# Altium schematic symbol library Hydrolib_sch.SchLib: 80 symbols
Pins are listed as number, name and electrical type; pins without a type are passive.

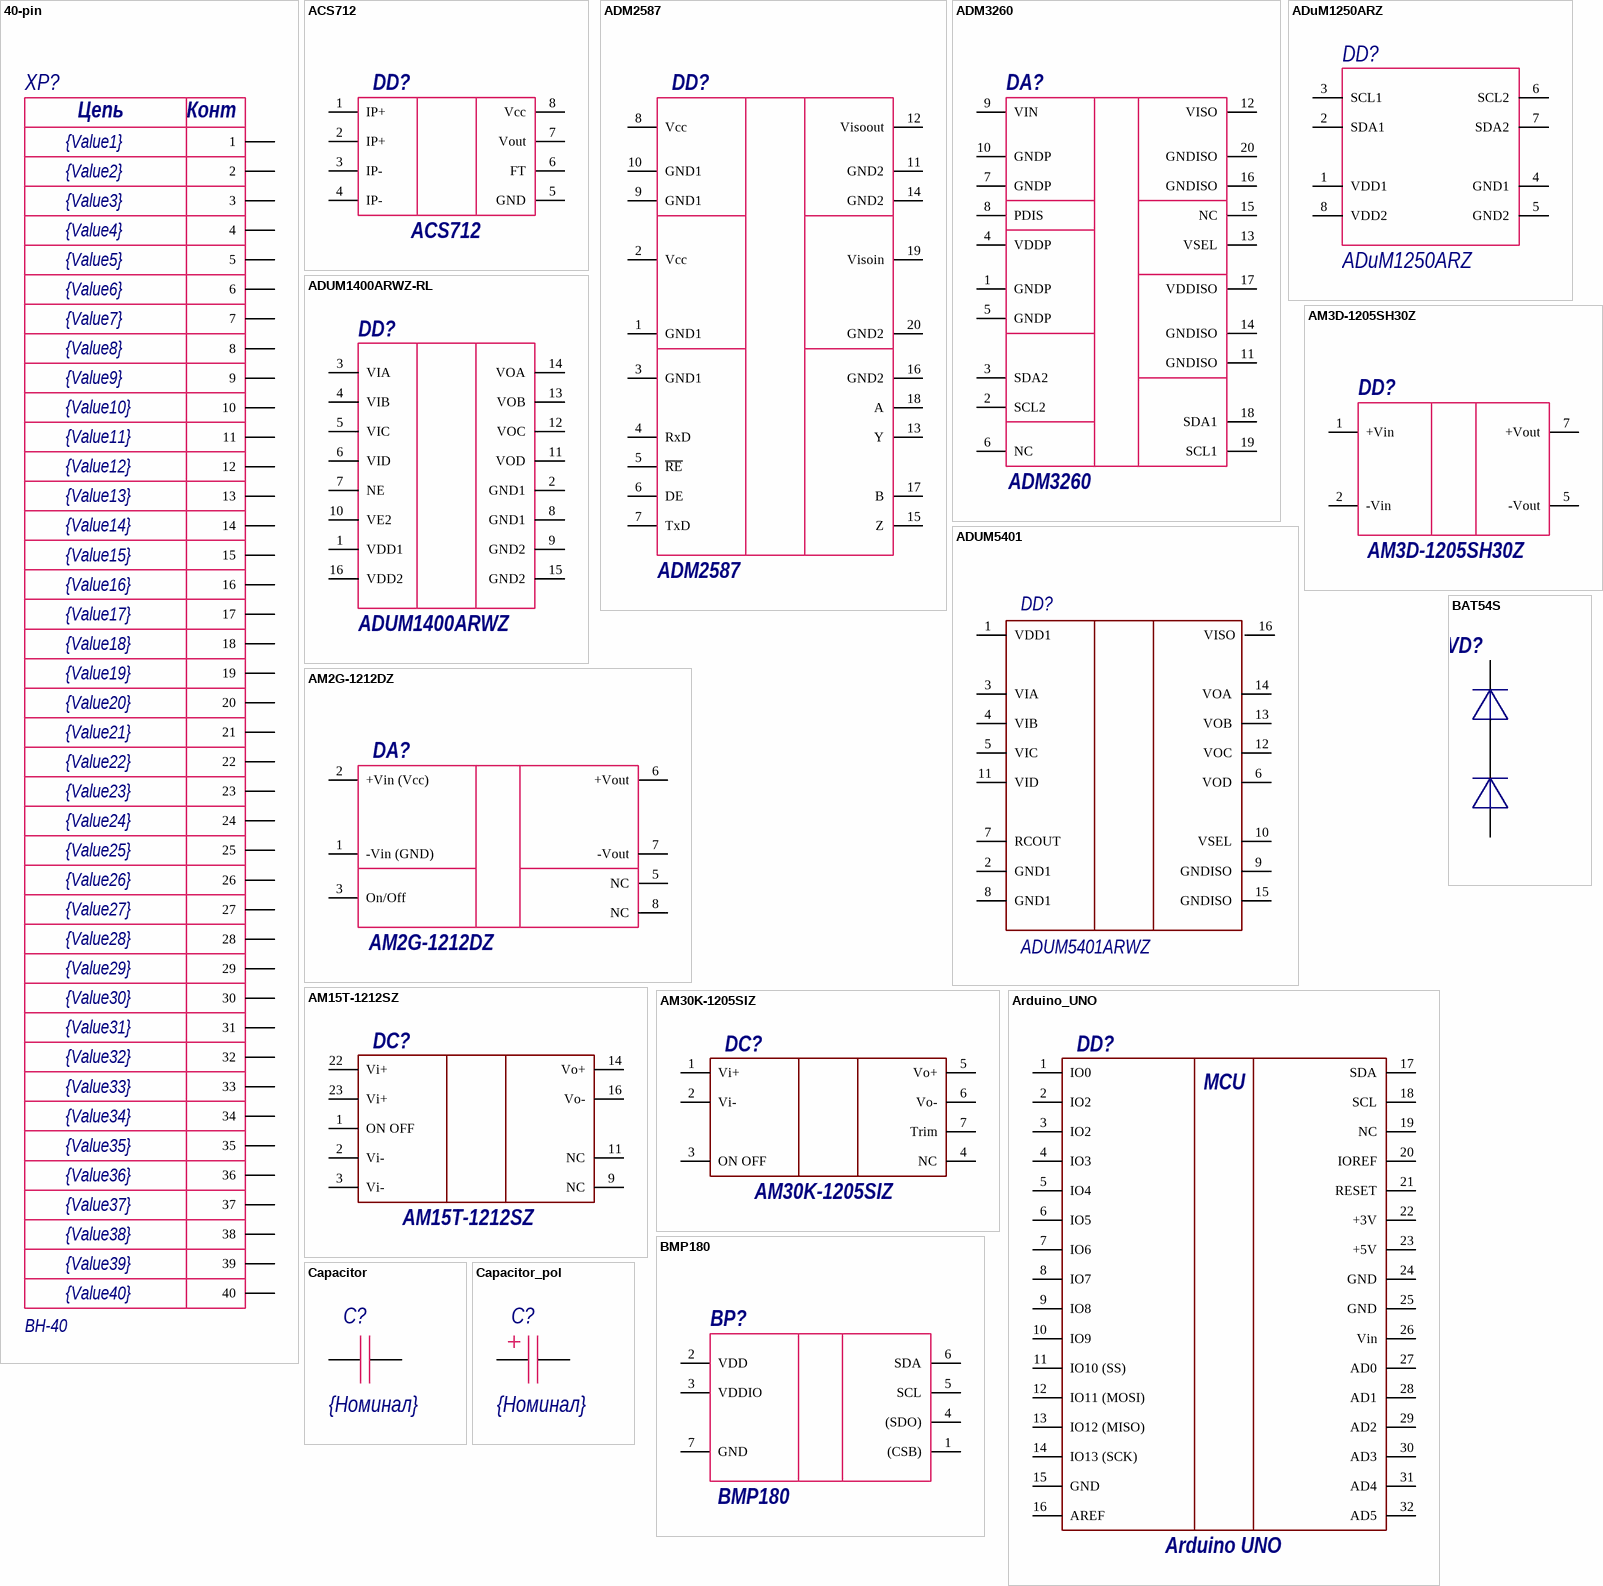
[diagram p0: symbols 40-pin to Capacitor_pol]

## 40-pin
designator XP?  value BH-40  Value10: {Value10}  Value11: {Value11}  Value12: {Value12}  Value13: {Value13}  Value14: {Value14}  Value15: {Value15}  Value16: {Value16}  Value17: {Value17}  Value18: {Value18}  Value1: {Value1}  Value2: {Value2}  Value3: {Value3}  Value4: {Value4}  Value5: {Value5}  Value6: {Value6}  Value7: {Value7}  Value8: {Value8}  Value9: {Value9}  Value19: {Value19}  Value20: {Value20}  Value21: {Value21}  Value22: {Value22}  Value23: {Value23}  Value24: {Value24}  Value25: {Value25}  Value26: {Value26}  Value27: {Value27}  Value28: {Value28}  Value29: {Value29}  Value30: {Value30}  Value31: {Value31}  Value32: {Value32}  Value33: {Value33}  Value34: {Value34}  Value35: {Value35}  Value36: {Value36}  Value37: {Value37}  Value38: {Value38}  Value39: {Value39}  Value40: {Value40}  (hidden comment: *)
Manufacturer: Connfly; Notice: Вилка-мама 40 пинов, шаг 2.54мм; Rate: 500В AC 1min; Case: корпус; Datasheet: https://lib.chipdip.ru/463/DOC002463525.pdf; Shop: https://www.chipdip.ru/product/idc-40ms
footprint PC - 104 20X2 (Connector; Header; 20x2 Position)
pins: 1, 2, 3, 4, 5, 6, 7, 8, 9, 10, 11, 12, 13, 14, 15, 16, 17, 18, 19, 20, 21, 22, 23, 24, 25, 26, 27, 28, 29, 30, 31, 32, 33, 34, 35, 36, 37, 38, 39, 40
text: Цепь; Конт

## ACS712
designator DD?
Manufacturer: Allegro Microsystems; Rate: 4,5...5,5В; Notice: Датчик постоянного тока на эффекте Холла; Datasheet: http://www.allegromicro.com/~/media/Files/Datasheets/ACS712-Datasheet.ashx; Shop: https://www.chipdip.ru/product/acs712elctr-05b-t; Value: ACS712
footprint SOIC8N (SOIC, 8-Leads, Body 4,90x3,90mm, Pitch 1,27mm, IPC Medium Density)
pins: 1 IP+, 2 IP+, 3 IP-, 4 IP-, 5 GND, 6 FT, 7 Vout, 8 Vcc

## ADM2587
designator DD?
Manufacturer: Analog Devies; Notice: Преобразователь RS-485 - UART с развязанным питанием и шиной данных; Rate: -0,5...7,5В; Datasheet: http://www.analog.com/media/en/technical-documentation/data-sheets/ADM2582E_2587E.pdf; Shop: https://ru.aliexpress.com/item/Free-shipping-10PCS-1lot-IC-ADM2587EBRWZ-ADM2587E-2587EBRWZ-SOP-20/32722806856.html?spm=a2g0v.search0302.3.9.s5rrmf&ws_ab_test=searchweb0_0,searchweb201602_0_10073_10152_10151_10536_10538_10537_10539_10055_10154_10211_10056_10155_10059_10312_10314_10534_10313_10533_10060_10084_100031_10083_10129_10107_10128_10307_10341_10065_10142_10340_10068_10343_10541_10342_10125_10169_10301_10345_10103_10543_10102_10344,searchweb201603_0,ppcSwitch_0&algo_pvid=65e5a329-1a38-4845-a227-d5df7d082cf8&algo_expid=65e5a329-1a38-4845-a227-d5df7d082cf8-1
footprint SOICRW-20 (20-Lead Standart Small Outline Package [SOIC_W] Wide Body (RW-20))
pins: 1 GND1 (power), 2 Vcc (power), 3 GND1, 4 RxD, 5 ~{RE}, 6 DE, 7 TxD, 8 Vcc (power), 9 GND1 (power), 10 GND1, 11 GND2 (power), 12 Visoout (power), 13 Y, 14 GND2, 15 Z, 16 GND2, 17 B, 18 A, 19 Visoin (power), 20 GND2 (power)

## ADM3260
designator DA?
Manufacturer: Analog Devices; Rate: 3,3...5,5В; Notice: Развязка I2C и питания; Datasheet: http://www.analog.com/media/en/technical-documentation/data-sheets/ADM3260.pdf; Shop: https://www.terraelectronica.ru/product/2120440; Value: ADM3260
footprint SSOP20 (For ADM3260)
pins: 1 GNDP, 2 SCL2, 3 SDA2, 4 VDDP, 5 GNDP, 6 NC, 7 GNDP, 8 PDIS, 9 VIN, 10 GNDP, 11 GNDISO, 12 VISO, 13 VSEL, 14 GNDISO, 15 NC, 16 GNDISO, 17 VDDISO, 18 SDA1, 19 SCL1, 20 GNDISO

## ADuM1250ARZ
designator DD?
Hot Swappable, Dual I2C Isolator, 3 to 5.5 V, -40 to 105 degC, 8-Pin SOIC (R-8), RoHS, Tape and Reel; PartNumber: ADuM1250ARZ-RL7; Data Rate: 1 Mbps; Supply Voltage Min: 3 V; Supply Voltage Max: 5.5 V; Mounting Technology: Surface Mount; Packing: Tape and Reel; ComponentLink2URL: http://www.analog.com/media/en/technical-documentation/data-sheets/ADUM1250_1251.pdf; Temperature Min: -40 degC; ComponentLink1URL: http://www.analog.com/; ComponentLink1Description: Manufacturer URL; PackageDescription: 8-Pin Small Outline Package, Body 4.9 x 3.9 mm, Pitch 1.27 mm; Code_JEDEC: MS-012-AA; Generic Part Number: ADUM1250; DatasheetVersion: Rev. H; Temperature Max: 105 degC; RoHS: TRUE; ComponentLink2Description: Datasheet
footprint ADI-R-8_N (SOIC, 8-Leads, Body 5x4mm, Pitch 1.27mm, IPC Medium Density)
footprint ADI-R-8_L (SOIC, 8-Leads, Body 5x4mm, Pitch 1.27mm, IPC High Density)
footprint ADI-R-8_M (SOIC, 8-Leads, Body 5x4mm, Pitch 1.27mm, IPC Low Density)
pins: 1 VDD1 "Supply Voltage, 3.0 V to 5.5 V.", 2 SDA1 "Data Input/Output, Side 1.", 3 SCL1 "Clock Input/Output, Side 1.", 4 GND1 "Ground 1. Ground reference for Isolator Side 1.", 5 GND2 "Ground 2. Isolated ground reference for Isolator Side 2.", 6 SCL2 "Clock Input/Output, Side 2.", 7 SDA2 "Data Input/Output, Side 2.", 8 VDD2 "Supply Voltage, 3.0 V to 5.5 V."

## ADUM1400ARWZ-RL
designator DD?, comment ADUM1400ARWZ
Четырехканальный цифровой изолятор; Shop: https://www.chipdip.ru/product/adum1400arwz
footprint ADI-RW-16_M (Footprint not found)
pins: 1 VDD1 "Supply Voltage for Isolator Side 1.", 2 GND1 "Ground 1. Ground reference for Isolator Side 1.", 3 VIA "Logic Input A.", 4 VIB "Logic Input B.", 5 VIC "Logic Input C.", 6 VID "Logic Output D.", 7 NE "Output Enable 1. Active high logic input. VOD output is enabled when VE1 is high or disconnected. VOD is disabled when VE1 is low. In noisy environments, connecting VE1 to an external logic high or low is recommended.", 8 GND1 "Ground 1. Ground reference for Isolator Side 1.", 9 GND2 "Ground 2. Ground reference for Isolator Side 2.", 10 VE2 "Output Enable 2. Active high logic input. VOA, VOB, and VOC outputs are enabled when VE2 is high or disconnected. VOA, VOB, and VOC outputs are disabled when VE2 is low. In noisy environments, connecting VE2 to an external (See Datasheet)", 11 VOD "Logic Input D.", 12 VOC "Logic Output C.", 13 VOB "Logic Output B.", 14 VOA "Logic Output A.", 15 GND2 "Ground 2. Ground reference for Isolator Side 2.", 16 VDD2 "Supply Voltage for Isolator Side 2."

## ADUM5401
designator DD?, comment ADUM5401ARWZ
DGTL ISO 2500VRMS 4CH GP 16SOIC; Isolated Power: Yes; Max Supply Voltage: 5.5V; Channel Type: Unidirectional; Data Rate: 25Mbps; Max Input Current: 20uA; Min Supply Voltage: 3V; Isolation Voltage: 2.5kV; Rise Time: 2.5ns; Pulse Width Distortion (PWD): 40ns; Max Output Current: 100mA; Power Dissipation: 500mW; Propagation Delay: 100ns; Nominal Supply Current: 19mA; Number of Channels: 4; Max Operating Temperature: 105°C; Radiation Hardening: No; Width: 7.6mm; Contact Plating: Tin; Number of Pins: 16; Min Operating Temperature: -40°C; Depth: 2.35mm; Lead Free: Contains Lead; Type: General Purpose; Packaging: Rail/Tube; REACH SVHC: No SVHC; Case/Package: SOIC; Package Quantity: 47; Length: 10.5mm; Shop: https://www.chipdip.ru/product/adum5401arwz?q=485+%D0%B8%D0%B7%D0%BE%D0%BB%D0%B8%D1%80%D0%BE%D0%B2%D0%B0%D0%BD%D0%BD%D1%8B%D0%B9
footprint ADUM5401
pins: 1 VDD1, 2 GND1, 3 VIA, 4 VIB, 5 VIC, 6 VOD, 7 RCOUT, 8 GND1, 9 GNDISO, 10 VSEL, 11 VID, 12 VOC, 13 VOB, 14 VOA, 15 GNDISO, 16 VISO

## AM2G-1212DZ
designator DA?
Manufacturer: Aimtec; Rate: 9..18В; Notice: Преобразователь напряжения 2 ватта; Datasheet: http://www.aimtec.com/site/Aimtec/files/Datasheet/HighResolution/AM2G-Z.pdf?ft4=53-390; Shop: https://e-components.ru/item/am-2-g-1212-dz; Case: SIP; Value: AM2G-1212DZ
footprint SIP-8 7 PINS
pins: 1 -Vin (GND), 2 +Vin (Vcc), 3 On/Off, 5 NC, 6 +Vout, 7 -Vout, 8 NC

## AM3D-1205SH30Z
designator DD?
Manufacturer: AIMTEC; Rate: 10,8…13,2В; Shop: ЭЛТЕХ-СПБ; Datasheet: http://www.aimtec.com/site/Aimtec/files/Datasheet/HIGHResolution/AM3D-Z.PDF; Notice: *; Case: SIP7; Value: AM3D-1205SH30Z
footprint AM3D-1205SH30Z
pins: 1 +Vin, 2 -Vin, 5 -Vout, 7 +Vout

## AM15T-1212SZ
designator DC?  value AM15T-1212SZ  (hidden comment: *)
Manufacturer: Aimtec; Notice: 15 ваттный DC-DC преобразователь; Rate: 9...18В; Datasheet: http://www.aimtec.com/site/Aimtec/files/Datasheet/HighResolution/AM15T-Z.pdf; Shop: http://www.eltech.spb.ru/item/am15t_1212sz
footprint AM15T-1212SZ
pins: 1 ON OFF, 2 Vi-, 3 Vi-, 9 NC, 11 NC, 14 Vo+, 16 Vo-, 22 Vi+, 23 Vi+

## AM30K-1205SIZ
designator DC?  value AM30K-1205SIZ  (hidden comment: *)
Manufacturer: Aimtec; Notice: 30 ваттный DC-DC преобразователь; Rate: 9...18В; Datasheet: http://www.aimtec.com/site/Aimtec/files/Datasheet/HighResolution/AM30K-I-Z.pdf; Shop: https://www.eltech.spb.ru/item/am30k_1205siz
footprint AM30K-1205SIZ
pins: 1 Vi+, 2 Vi-, 3 ON OFF, 4 NC, 5 Vo+, 6 Vo-, 7 Trim

## Arduino_UNO
designator DD?  value Arduino UNO  Value1: MCU  (hidden comment: *)
Manufacturer: Arduino; Notice: Микроконтроллерная плата; Rate: 6...20В; Datasheet: https://www.farnell.com/datasheets/1682209.pdf
footprint ARDUINO_UNO
pins: 1 IO0, 2 IO2, 3 IO2, 4 IO3, 5 IO4, 6 IO5, 7 IO6, 8 IO7, 9 IO8, 10 IO9, 11 IO10 (SS), 12 IO11 (MOSI), 13 IO12 (MISO), 14 IO13 (SCK), 15 GND, 16 AREF, 17 SDA, 18 SCL, 19 NC, 20 IOREF, 21 RESET, 22 +3V, 23 +5V, 24 GND, 25 GND, 26 Vin, 27 AD0, 28 AD1, 29 AD2, 30 AD3, 31 AD4, 32 AD5

## BAT54S
designator VD?
Manufactore: Philips; Rate: 30В; Case: SOT23; Datasheet: https://lib.chipdip.ru/205/DOC000205087.pdf
footprint SOT23
pins: 1, 2, 3

## BMP180
designator BP?
Manufactore: Bosch; Rate: 1,62...3,6В; Notice: Цифровой датчик давления; Datasheet: https://cdn-shop.adafruit.com/datasheets/BST-BMP180-DS000-09.pdf; Shop: http://www.electronshik.ru/item/bmp180-982764; Value: BMP180
footprint LGA7C147P3X3_380X360X100 (LGA, 7-Leads, Body 3,80x3,60mmx1,00mm, Pitch 1,47mm)
pins: 1 (CSB), 2 VDD, 3 VDDIO, 4 (SDO), 5 SCL, 6 SDA, 7 GND

## Capacitor
designator C?  value {Номинал}  (hidden comment: Capacitor)
footprint 0603C (Chip Resistor, 2-Leads, Body 1,40x0,80mm, IPC Medium Density)
footprint 0805C
pins: 1, 2

## Capacitor_pol
designator C?, comment value {Номинал}  (hidden comment: 1uF)
footprint TC_A (3216) (Tantalum capacitor, type A,  1 pin - plus)
footprint TC_E (7343H) (Tantalum capacitor, type E, 1 pin - plus)
footprint TC_D (7343) (Tantalum capacitor, type D, 1 pin - plus)
footprint TC_C (6032) (Tantalum capacitor, type C, 1 pin - plus)
footprint TC_B (3528) (Tantalum capacitor, type B, 1 pin - plus)
pins: 1, 2

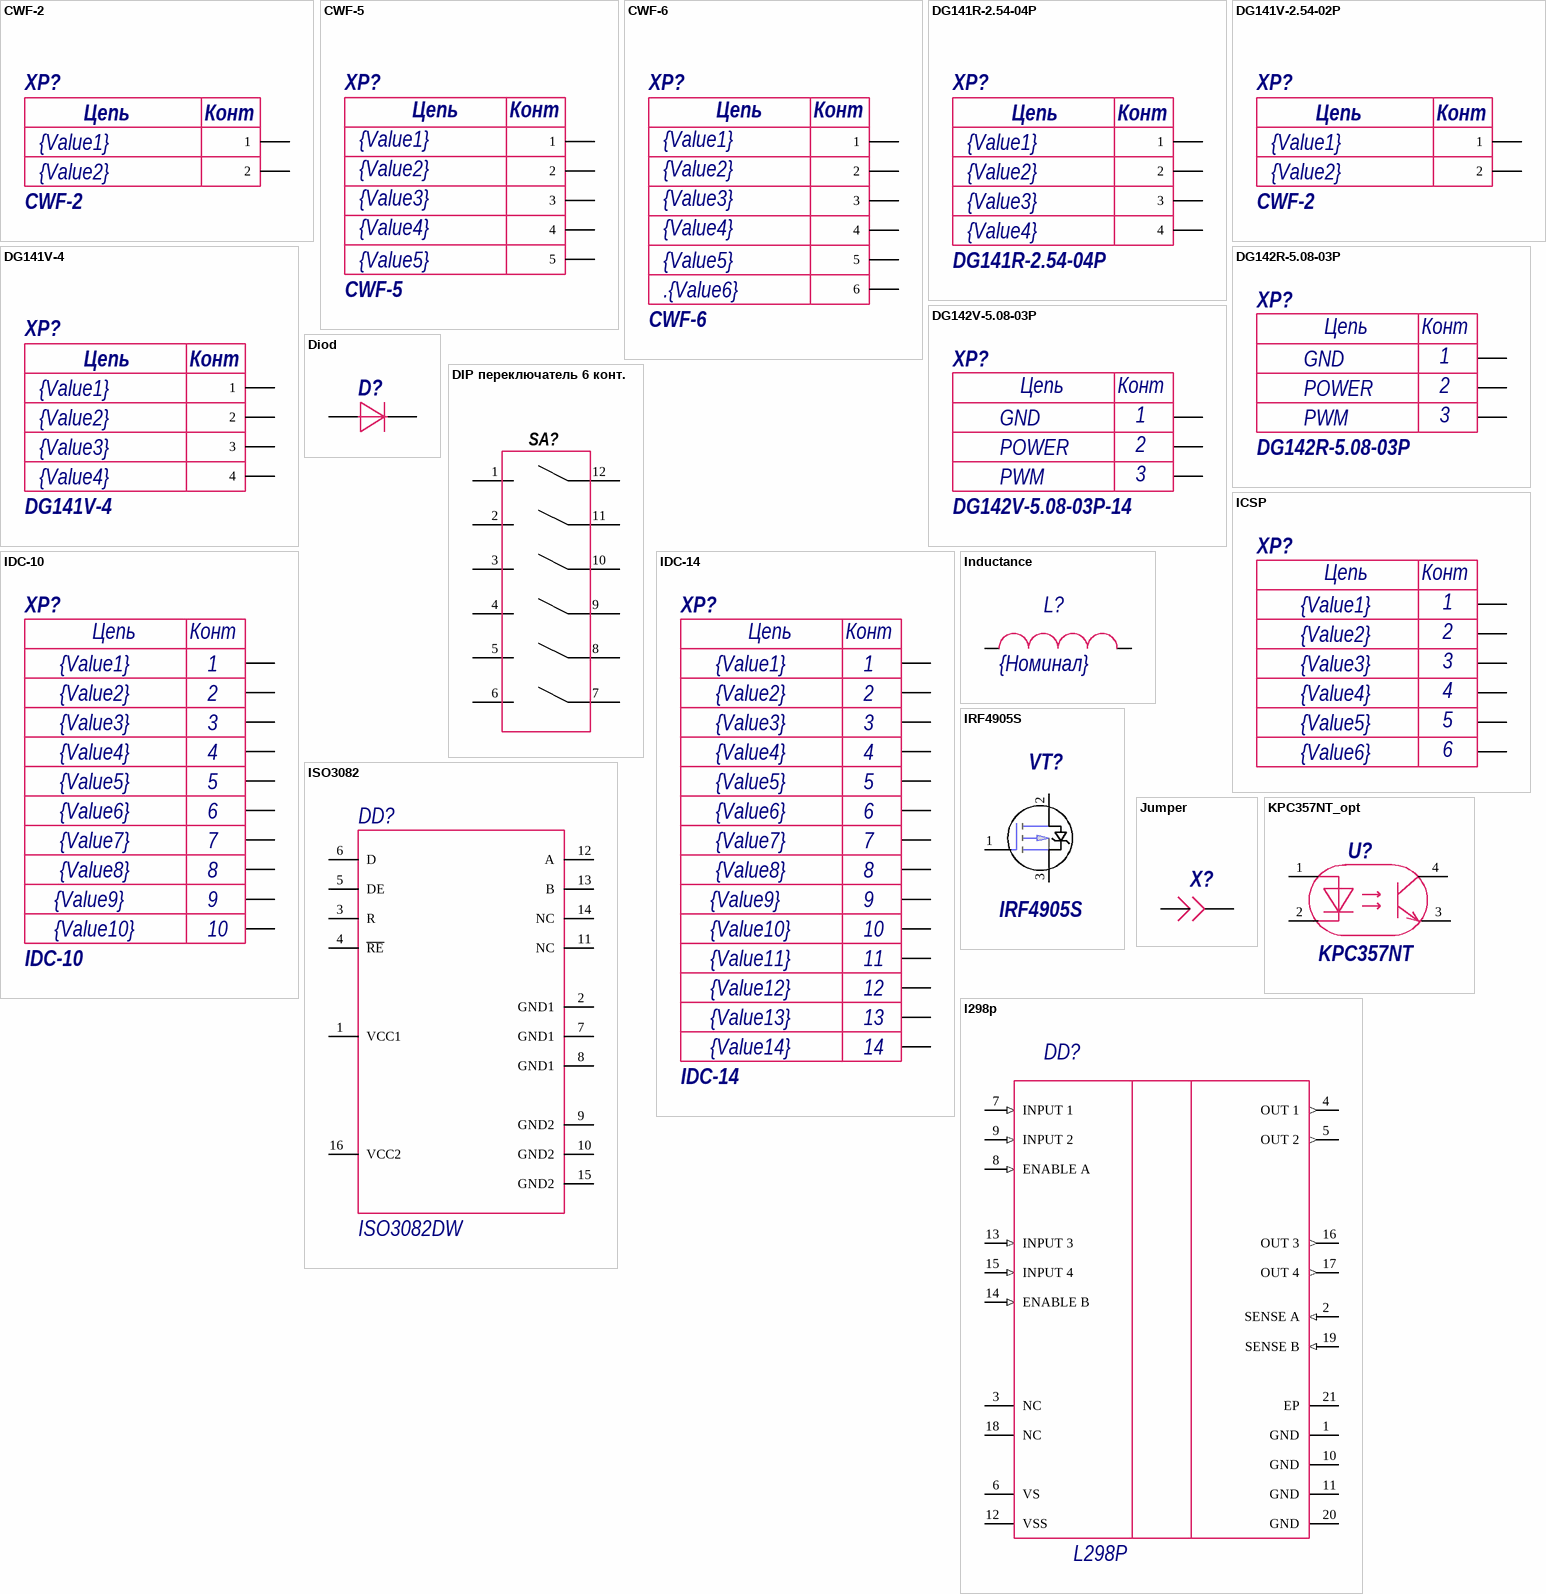
[diagram p1: symbols CWF-2 to l298p]

## CWF-2
designator XP?  value CWF-2  Value1: {Value1}  Value2: {Value2}  (hidden comment: *)
Manufacturer: Connfly; Notice: Вилка-мама 2 пина, шаг 2.5мм; Rate: 500В AC 1min; Case: корпус; Datasheet: https://lib.chipdip.ru/413/DOC001413777.pdf; Shop: https://www.chipdip.ru/product/cwf-2
footprint CWF-2 (перемычка для плат)
pins: 1, 2
text: Цепь; Конт

## CWF-5
designator XP?  value CWF-5  Value1: {Value1}  Value2: {Value2}  Value3: {Value3}  Value4: {Value4}  Value5: {Value5}  (hidden comment: *)
Notice: Вилка-мама 5 пинов, шаг 2.5мм; Rate: 500В AC 1min; Case: корпус; Datasheet: https://lib.chipdip.ru/413/DOC001413777.pdf; Manufactore: CWF-5; Shop: https://www.chipdip.ru/product/cwf-5
footprint CWF-5
pins: 1, 2, 3, 4, 5
text: Цепь; Конт

## CWF-6
designator XP?  value CWF-6  Value1: {Value1}  Value2: {Value2}  Value3: {Value3}  Value4: {Value4}  Value5: {Value5}  Value6: .{Value6}  (hidden comment: *)
Manufactore: CWF-5; Notice: Вилка-мама 5 пинов, шаг 2.5мм; Rate: 500В AC 1min; Case: корпус; Datasheet: https://lib.chipdip.ru/413/DOC001413777.pdf; Shop: https://www.chipdip.ru/product/cwf-5
footprint CWF-6
pins: 1, 2, 3, 4, 5, 6
text: Цепь; Конт

## DG141R-2.54-04P
designator XP?  value DG141R-2.54-04P  Value1: {Value1}  Value2: {Value2}  Value3: {Value3}  Value4: {Value4}  (hidden comment: *)
Manufactore: Connfly; Notice: Вилка-мама 4 пина, шаг 2.54мм; Rate: 500В AC 1min; Case: корпус; Datasheet: https://lib.chipdip.ru/413/DOC001413777.pdf; Shop: https://www.chipdip.ru/product0/8001797046; Parameter 1: *
footprint DG141R-2.54-04P
pins: 1, 2, 3, 4
text: Цепь; Конт

## DG141V-2.54-02P
designator XP?  value CWF-2  Value1: {Value1}  Value2: {Value2}  (hidden comment: *)
Manufacturer: Connfly; Notice: Вилка-мама 2 пина, шаг 2.5мм; Rate: 500В AC 1min; Case: корпус; Datasheet: https://lib.chipdip.ru/413/DOC001413777.pdf; Shop: https://www.chipdip.ru/product/cwf-2
footprint DG141V-2.54-02P
pins: 1, 2
text: Цепь; Конт

## DG141V-4
designator XP?  value DG141V-4  Value1: {Value1}  Value2: {Value2}  Value3: {Value3}  Value4: {Value4}  (hidden comment: *)
Manufactore: Connfly; Notice: Вилка-мама 4 пина, шаг 2.5мм; Rate: 500В AC 1min; Case: корпус; Datasheet: https://lib.chipdip.ru/413/DOC001413777.pdf; Shop: https://www.chipdip.ru/product/cwf-4
footprint DG141V-2.54-04P
pins: 1, 2, 3, 4
text: Цепь; Конт

## DG142R-5.08-03P
designator XP?  value DG142R-5.08-03P  Value3: PWM  Value2: POWER  Value1: GND  (hidden comment: *)
Manufacturer: Connfly; Notice: Вилка штырьевая 3 пина, шаг 2,54мм; Rate: 500В AC 1min; Datasheet: https://lib.chipdip.ru/227/DOC000227157.pdf; Shop: https://www.chipdip.ru/product/pls-3
footprint DG142R-5.08-03P (Footprint not found)
pins: + 2, - 1, PWM 3
text: Цепь; Конт

## DG142V-5.08-03P
designator XP?  value DG142V-5.08-03P-14  Value3: PWM  Value2: POWER  Value1: GND  (hidden comment: *)
Manufacturer: Connfly; Notice: Вилка штырьевая 3 пина, шаг 2,54мм; Rate: 500В AC 1min; Datasheet: https://lib.chipdip.ru/227/DOC000227157.pdf; Shop: https://www.chipdip.ru/product/pls-3
footprint DG142V-5.08-03P - duplicate
pins: + 2, - 1, PWM 3
text: Цепь; Конт

## Diod
designator D?
Value: {Номинал}
footprint SOD-123 (SODFL, 2-Leads, Body 1.55x3.70mm, IPC Medium Density)
pins: 1, 2

## DIP переключатель 6 конт.
designator SA?
Value: *
footprint SW-6
pins: 1, 2, 3, 4, 5, 6, 7, 8, 9, 10, 11, 12

## ICSP
designator XP?  Value1: {Value1}  Value2: {Value2}  Value6: {Value6}  Value5: {Value5}  Value3: {Value3}  Value4: {Value4}  (hidden comment: *)
Notice: Вилка программатора
footprint ICSP
pins: 1, 2, 3, 4, 5, 6
text: Цепь; Конт

## IDC-10
designator XP?  value IDC-10  Value1: {Value1}  Value2: {Value2}  Value3: {Value3}  Value4: {Value4}  Value5: {Value5}  Value6: {Value6}  Value7: {Value7}  Value8: {Value8}  Value9: {Value9}  Value10: {Value10}  (hidden comment: *)
Manufacturer: Zhenqin; Notice: Вилка-мама 14 пинов, шаг 2.54мм; Rate: 1000В AC 1min; Datasheet: https://lib.chipdip.ru/273/DOC000273693.pdf; Shop: https://www.chipdip.ru/product/idc-14f
footprint IDC-10 (IDC-10 Male Connector)
pins: 1, 2, 3, 4, 5, 6, 7, 8, 9, 10
text: Цепь; Конт

## IDC-14
designator XP?  value IDC-14  Value1: {Value1}  Value2: {Value2}  Value3: {Value3}  Value4: {Value4}  Value5: {Value5}  Value6: {Value6}  Value7: {Value7}  Value8: {Value8}  Value9: {Value9}  Value10: {Value10}  Value11: {Value11}  Value12: {Value12}  Value13: {Value13}  Value14: {Value14}  (hidden comment: *)
Manufacturer: Zhenqin; Notice: Вилка-мама 14 пинов, шаг 2.54мм; Rate: 1000В AC 1min; Datasheet: https://lib.chipdip.ru/273/DOC000273693.pdf; Shop: https://www.chipdip.ru/product/idc-14f
footprint IDC-14MC (IDC-14 Male Connector)
pins: 1, 2, 3, 4, 5, 6, 7, 8, 9, 10, 11, 12, 13, 14
text: Цепь; Конт

## Inductance
designator L?  value {Номинал}  (hidden comment: *)
footprint 0603L (Chip Inductor, 2-Leads, Body 1,55x0,85mm, IPC Medium Density)
footprint IND_VLS4012CX_4X4_TDK
pins: 1, 2

## IRF4905S
designator VT?  value IRF4905S  (hidden comment: *)
Manufacturer: International Rectifier; Notice: P-канальный MOSFET транзистор; Rate: -20...20В Затвор-исток; Datasheet: http://www.irf.com/product-info/datasheets/data/irf4905s.pdf; Shop: https://www.chipdip.ru/product/irf4905
footprint D2PAK (D2-PAK, 3-Pads, Body 8,21x8,63mm (max), IPC Medium Density)
pins: 1, 2, 3

## ISO3082
designator DD?, comment ISO3082DW
Isolated RS-485 Transceiver, 0.2 Mbps, 5 V, Half Duplex, -40 to 85 degC, 16-pin SOIC (DW), Green (RoHS & no Sb/Br); Manufacturer: Texas Instruments; Fault Protection(V): -9 to 14; Fail Safe: Idle, Open, Short; # of TX/RX: 1 TX / 1 RX; Isolated: Yes; ICC(Max)(mA): 15; ESD(kV): 16; Number of Nodes: 256; Drivers Per Package: 1; Rating: Catalog; Common Mode Range: -7 to 12; Supply Voltage(s)(V): 5; Signaling Rate(Mbps): 0.2; Eco-Plan: Green (RoHS & no Sb/Br); ComponentLink2URL: http://www.ti.com/litv/pdf/msoi003g; DatasheetVersion: SLOS581E; SubFamily: RS-485; PartNumber: ISO3082DW; Duplex: Half; PackageDescription: 16-Pin Small Outline Integrated Circuit, 10.3 x 7.5 mm, Pitch 1.27 mm Pitch; ComponentLink1Description: Datasheet; ComponentLink1URL: http://www.ti.com/general/docs/lit/getliterature.tsp?genericPartNumber=ISO3082&fileType=pdf; Code_JEDEC: MS-013-AA; PackageReference: DW0016B; ComponentLink2Description: Package Specification; Mounting Technology: Surface Mount; Receivers Per Package: 1; PackageVersion: revG, Jan-2011
footprint DW0016B_L (SOIC, 16-Leads, Body 10.5x7.6mm, Pitch 1.27mm, IPC High Density)
footprint DW0016B_N (SOIC, 16-Leads, Body 10.5x7.6mm, Pitch 1.27mm, IPC Medium Density)
footprint DW0016B_M (SOIC, 16-Leads, Body 10.5x7.6mm, Pitch 1.27mm, IPC Low Density)
pins: 1 VCC1, 2 GND1, 3 R, 4 ~{RE}, 5 DE, 6 D, 7 GND1, 8 GND1, 9 GND2, 10 GND2, 11 NC, 12 A, 13 B, 14 NC, 15 GND2, 16 VCC2

## Jumper
designator X?  (value not drawn)
Manufacturer: производитель; Rate: уровень напряжений; Shop: магазин с самой дешевой ценой; Notice: перемычка; Datasheet: ссылка на даташит; Case: корпус
footprint Fused Jumper (Solder fused jumper)
pins: 1 M2,5, 2 M2,5

## KPC357NT_opt
designator U?, comment KPC357NT
Manufacturer: Cosmo Electronics; Notice: Оптопара с фототранзистором; Rate: -5...80В Коллектор-эмиттер, 6В - обратное напряжение диода; Datasheet: http://www.cosmo-ic.com/object/products/KPC357NT.pdf; Shop: https://www.chipdip.ru/product/kpc357nt; Value: KPC357NT
footprint OPTRON
pins: 1, 2, 3, 4

## l298p
designator DD?, comment L298P
Dual Full-Bridge Driver, 4.5 to 7 V, -25 to 130 degC, 20-Pin SOIC, RoHS, Tube; Manufacturer: STMicroelectronics; Output Current: 2A; Collector Emitter Voltage (VCEO): 46V; Min Supply Voltage: 4.8V; Max Collector Current: 3A; Supply Voltage: 42V; Number of Channels: 2; Operating Supply Current: 13mA; Packaging: Rail/Tube; Package Reference: PowerSO20; Width: 11.1mm; Radiation Hardening: No; Height: 3.3mm; Lead Free: LeadFree; Datasheet Version: 36526.0; Datasheet URL: http://www.st.com/content/ccc/resource/technical/document/datasheet/82/cc/3f/39/0a/29/4d/f0/CD00000240.pdf/files/CD00000240.pdf/jcr:content/translations/en.CD00000240.pdf; RoHSCompliant: true; Max Supply Voltage: 46V; Output Current per Channel: 2A; Package Description: 20-Pin Small Outline Integrated Circuits, Body 15.9 x 11 mm, Pitch 1.27 mm; Case/Package: SOIC; Min Operating Temperature: -25degC; Number of Pins: 20; Length: 16mm; Max Output Current: 3A; Package Quantity: 31; Max Operating Temperature: 130degC; Mount: SurfaceMount; Manufacturer URL: http://www.st.com/
footprint STM-PowerSO20_L (SOIC, 20-Leads, Body 16x11.1mm, Pitch 1.27mm, Thermal Pad 16x6.2mm, IPC High Density)
pins: 1 GND (power) "Ground.", 2 SENSE A (in) "Between this pin and ground is connected the sense resistor to control the current of the load.", 3 NC "Not Connected", 4 OUT 1 (out) "Outputs of the Bridge A; the current that flows through the load connected between these two pins is monitored at pin 1.", 5 OUT 2 (out) "Outputs of the Bridge A; the current that flows through the load connected between these two pins is monitored at pin 1.", 6 VS (power) "Supply Voltage for the Power Output Stages. A non-inductive 100nF capacitor must be connected between this pin and ground.", 7 INPUT 1 (in) "TTL Compatible Inputs of the Bridge A.", 8 ENABLE A (in) "TTL Compatible Enable Input: the L state disables the bridge A (enable A) and/or the bridge B (enable B).", 9 INPUT 2 (in) "TTL Compatible Inputs of the Bridge A.", 10 GND (power) "Ground.", 11 GND (power) "Ground.", 12 VSS (power) "Supply Voltage for the Logic Blocks. A100nF capacitor must be connected between this pin and ground.", 13 INPUT 3 (in) "TTL Compatible Inputs of the Bridge B.", 14 ENABLE B (in) "TTL Compatible Enable Input: the L state disables the bridge A (enable A) and/or the bridge B (enable B).", 15 INPUT 4 (in) "TTL Compatible Inputs of the Bridge B.", 16 OUT 3 (out) "Outputs of the Bridge B. The current that flows through the load connected between these two pins is monitored at pin 15.", 17 OUT 4 (out) "Outputs of the Bridge B. The current that flows through the load connected between these two pins is monitored at pin 15.", 18 NC "Not Connected", 19 SENSE B (in) "Between this pin and ground is connected the sense resistor to control the current of the load.", 20 GND (power) "Ground.", 21 EP "PAD"

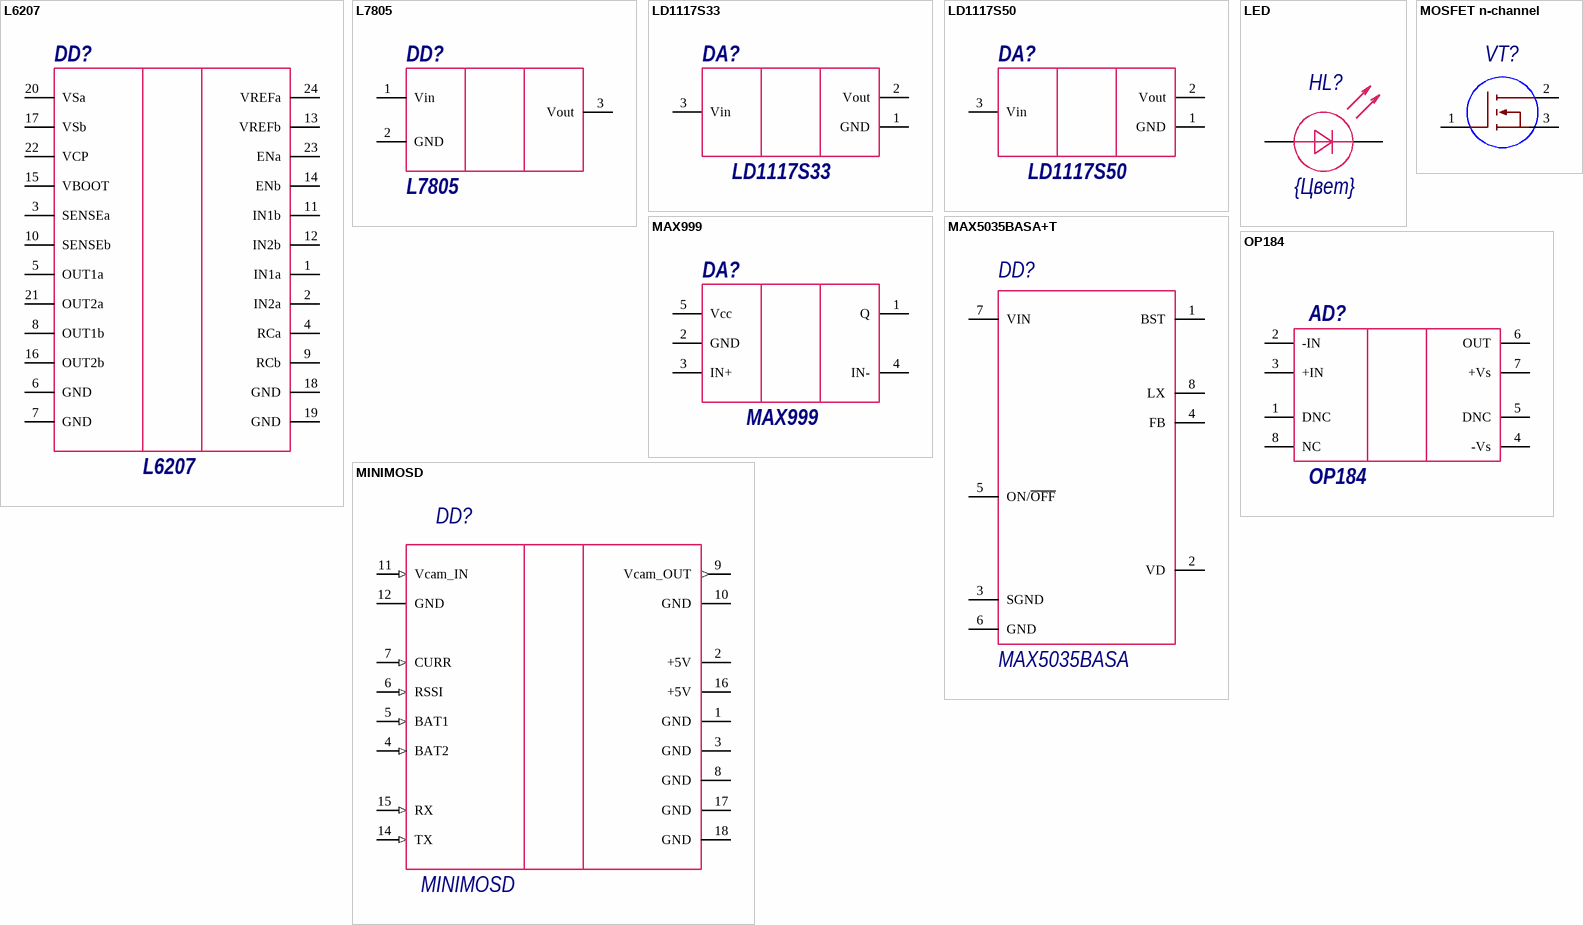
[diagram p2: symbols L6207 to OP184]

## L6207
designator DD?
Manufacturer: ST Microelectronics; Notice: КМОП-драйвер с ШИМ; Rate: -0,3...7В - цифровое, 8...60В - силовое; Datasheet: http://www.st.com/content/ccc/resource/technical/document/datasheet/4f/3d/e2/db/94/78/40/93/CD00002293.pdf/files/CD00002293.pdf/jcr:content/translations/en.CD00002293.pdf; Shop: https://ru.aliexpress.com/item/10pcs-lot-L6207D013TR-L6207D-L6207-SOP24/32709430801.html?spm=a2g0v.search0302.3.8.qwH52J&ws_ab_test=searchweb0_0,searchweb201602_0_10073_10152_10151_10536_10538_10537_10539_10055_10154_10211_10056_10155_10059_10312_10314_10534_10313_10533_10060_10084_100031_10083_10129_10107_10128_10307_10341_10065_10142_10340_10068_10343_10541_10342_10125_10169_10301_10345_10103_10543_10102_10344,searchweb201603_0,ppcSwitch_0&algo_pvid=a021a9ff-919b-413d-924d-a9c531deb961&algo_expid=a021a9ff-919b-413d-924d-a9c531deb961-1; Value: L6207
footprint SO24
pins: 1 IN1a, 2 IN2a, 3 SENSEa, 4 RCa, 5 OUT1a, 6 GND, 7 GND, 8 OUT1b, 9 RCb, 10 SENSEb, 11 IN1b, 12 IN2b, 13 VREFb, 14 ENb, 15 VBOOT, 16 OUT2b, 17 VSb, 18 GND, 19 GND, 20 VSa, 21 OUT2a, 22 VCP, 23 ENa, 24 VREFa

## L7805
designator DD?  value L7805
L7805_stab 12->5; Manufacturer: ST Microelectronics; Notice: Стабилизатор напряжения +5В; Rate: ...35В; Datasheet: http://www.st.com/content/ccc/resource/technical/document/datasheet/41/4f/b3/b0/12/d4/47/88/CD00000444.pdf/files/CD00000444.pdf/jcr:content/translations/en.CD00000444.pdf; Shop: https://www.chipdip.ru/product/l7805cv
footprint DPAK (D-PAK, 3-Pads, Body 6.20x6.66mm (max), IPC Medium Density)
pins: 1 Vin, 2 GND, 3 Vout

## LD1117S33
designator DA?
Manufacturer: ST Microelectronics; Notice: Стабилизатор напряжения 3,3В; Rate: 0...15В; Datasheet: https://lib.chipdip.ru/168/DOC001168686.pdf; Shop: https://www.chipdip.ru/product/ld1117v33; Case: SOT223; Value: LD1117S33
footprint SOT223 (SOT223, ld1117)
pins: 1 GND, 2 Vout, 3 Vin

## LD1117S50
designator DA?
Manufacturer: ST Microelectronics; Notice: Стабилизатор напряжения 3,3В; Rate: 0...15В; Datasheet: https://lib.chipdip.ru/168/DOC001168686.pdf; Shop: https://www.chipdip.ru/product/ld1117v33; Case: SOT223; Value: LD1117S50
footprint SOT223 (SOT223, ld1117)
pins: 1 GND, 2 Vout, 3 Vin

## LED
designator HL?  Color: {Цвет}
Manufacturer: -; Rate: -; Datasheet: -; Shop: -; Notice: -; Case: -
footprint 0805D
pins: 1, 2

## MAX999
designator DA?
Manufacturer: Maxin Integrated; Notice: Высокоскоростной компаратор; Rate: 2,7...5,5В; Datasheet: https://datasheets.maximintegrated.com/en/ds/MAX961-MAX999.pdf; Shop: https://ru.aliexpress.com/item/Free-shipping-10pcs-lot-MAX999EUK-T-MAX999EUK-MAX999EUK-MAX999E-MAX999-IC-COMP-BEYOND-THE-RAILS-SOT23/32327459016.html?spm=a2g0v.search0104.3.9.NvBKPz&ws_ab_test=searchweb0_0,searchweb201602_2_10152_10065_10151_10344_10068_10345_10342_10343_10340_10341_10543_10541_10084_10083_10307_10301_5640015_10060_10155_10154_10056_10055_10539_10538_5370015_10537_10312_10536_10059_10313_10314_10534_10533_100031_10211_10103_10128_10073_10102_10129_10169_10142_10107_10125,searchweb201603_2,ppcSwitch_5&btsid=31b68e71-95a5-4f7a-86e6-35d0c4d1aa2b&algo_expid=dcb29998-31f2-4313-bc28-512c5678a331-1&algo_pvid=dcb29998-31f2-4313-bc28-512c5678a331; Value: MAX999
footprint SOT23-5 (SOT23-5, max999)
pins: 1 Q, 2 GND, 3 IN+, 4 IN-, 5 Vcc

## MAX5035BASA+T
designator DD?, comment MAX5035BASA
1A, 76V, High-Efficiency MAXPower Step-Down DC-DC Converter, 5V output, 8-Pin SOIC, -40°C to +125°C, Pb-Free; ComponentLink2Description: Datasheet; Code_IPC: SOIC127P600-8; PackageDescription: 8-Pin Small-Outline IC, Narrow (0.15in), 1.27 mm Pitch, SOIC (N), Pb-Free; ComponentLink1URL: http://www.maxim-ic.com; PackageVersion: revC, 2010; Code_JEDEC: MS-012-AA; ComponentLink3URL: http://pdfserv.maxim-ic.com/package_dwgs/21-0041.PDF; DatasheetVersion: Rev 5, May-2011; ComponentLink2URL: http://datasheets.maxim-ic.com/en/ds/MAX5035.pdf; PackageReference: S8+5; ComponentLink1Description: Manufacturer URL; ComponentLink3Description: Package Specification
footprint S8+5_L (SOIC, 8-Leads, Body 4.9x3.9mm, Pitch 1.27mm, IPC High Density)
pins: 1 BST, 2 VD (power), 3 SGND (power), 4 FB, 5 ON/~{OFF}, 6 GND (power), 7 VIN (power), 8 LX

## MINIMOSD
designator DD?
Dual Full-Bridge Driver, 4.5 to 7 V, -25 to 130 degC, 20-Pin SOIC, RoHS, Tube; Manufacturer: STMicroelectronics; Output Current: 2A; Collector Emitter Voltage (VCEO): 46V; Min Supply Voltage: 4.8V; Max Collector Current: 3A; Supply Voltage: 42V; Number of Channels: 2; Operating Supply Current: 13mA; Packaging: Rail/Tube; Package Reference: PowerSO20; Width: 11.1mm; Radiation Hardening: No; Height: 3.3mm; Lead Free: LeadFree; Datasheet Version: 36526.0; Datasheet URL: http://www.st.com/content/ccc/resource/technical/document/datasheet/82/cc/3f/39/0a/29/4d/f0/CD00000240.pdf/files/CD00000240.pdf/jcr:content/translations/en.CD00000240.pdf; RoHSCompliant: true; Max Supply Voltage: 46V; Output Current per Channel: 2A; Package Description: 20-Pin Small Outline Integrated Circuits, Body 15.9 x 11 mm, Pitch 1.27 mm; Case/Package: SOIC; Min Operating Temperature: -25degC; Number of Pins: 20; Length: 16mm; Max Output Current: 3A; Package Quantity: 31; Max Operating Temperature: 130degC; Mount: SurfaceMount; Manufacturer URL: http://www.st.com/
footprint OSD (IDC-10 Male Connector)
pins: 1 GND (power) "Ground.", 2 +5V "PAD", 3 GND (power) "Ground.", 4 BAT2 (in) "TTL Compatible Enable Input: the L state disables the bridge A (enable A) and/or the bridge B (enable B).", 5 BAT1 (in) "TTL Compatible Enable Input: the L state disables the bridge A (enable A) and/or the bridge B (enable B).", 6 RSSI (in) "TTL Compatible Inputs of the Bridge B.", 7 CURR (in) "TTL Compatible Inputs of the Bridge B.", 8 GND (power) "Ground.", 9 Vcam_OUT (out) "Outputs of the Bridge A; the current that flows through the load connected between these two pins is monitored at pin 1.", 10 GND (power) "Outputs of the Bridge A; the current that flows through the load connected between these two pins is monitored at pin 1.", 11 Vcam_IN (in) "TTL Compatible Inputs of the Bridge A.", 12 GND (power) "TTL Compatible Inputs of the Bridge A.", 14 TX (in) "Between this pin and ground is connected the sense resistor to control the current of the load.", 15 RX (in) "Between this pin and ground is connected the sense resistor to control the current of the load.", 16 +5V (power) "Ground.", 17 GND (power) "Ground.", 18 GND (power) "Ground."

## MOSFET n-channel
designator VT?
footprint TO 220 DRAIN DOWN
pins: 1, 2, 3

## OP184
designator AD?
Manufacturer: Analog Devices; Rate: 3..36В; Notice: Операционный усилитель одноканальный; Datasheet: http://www.analog.com/media/en/technical-documentation/data-sheets/OP184_284_484.pdf; Shop: https://www.chipdip.ru/product/op184fs; Case: корпус; Value: OP184
footprint SOIC_8N (for operational amplifier)
pins: 1 DNC, 2 -IN, 3 +IN, 4 -Vs, 5 DNC, 6 OUT, 7 +Vs, 8 NC

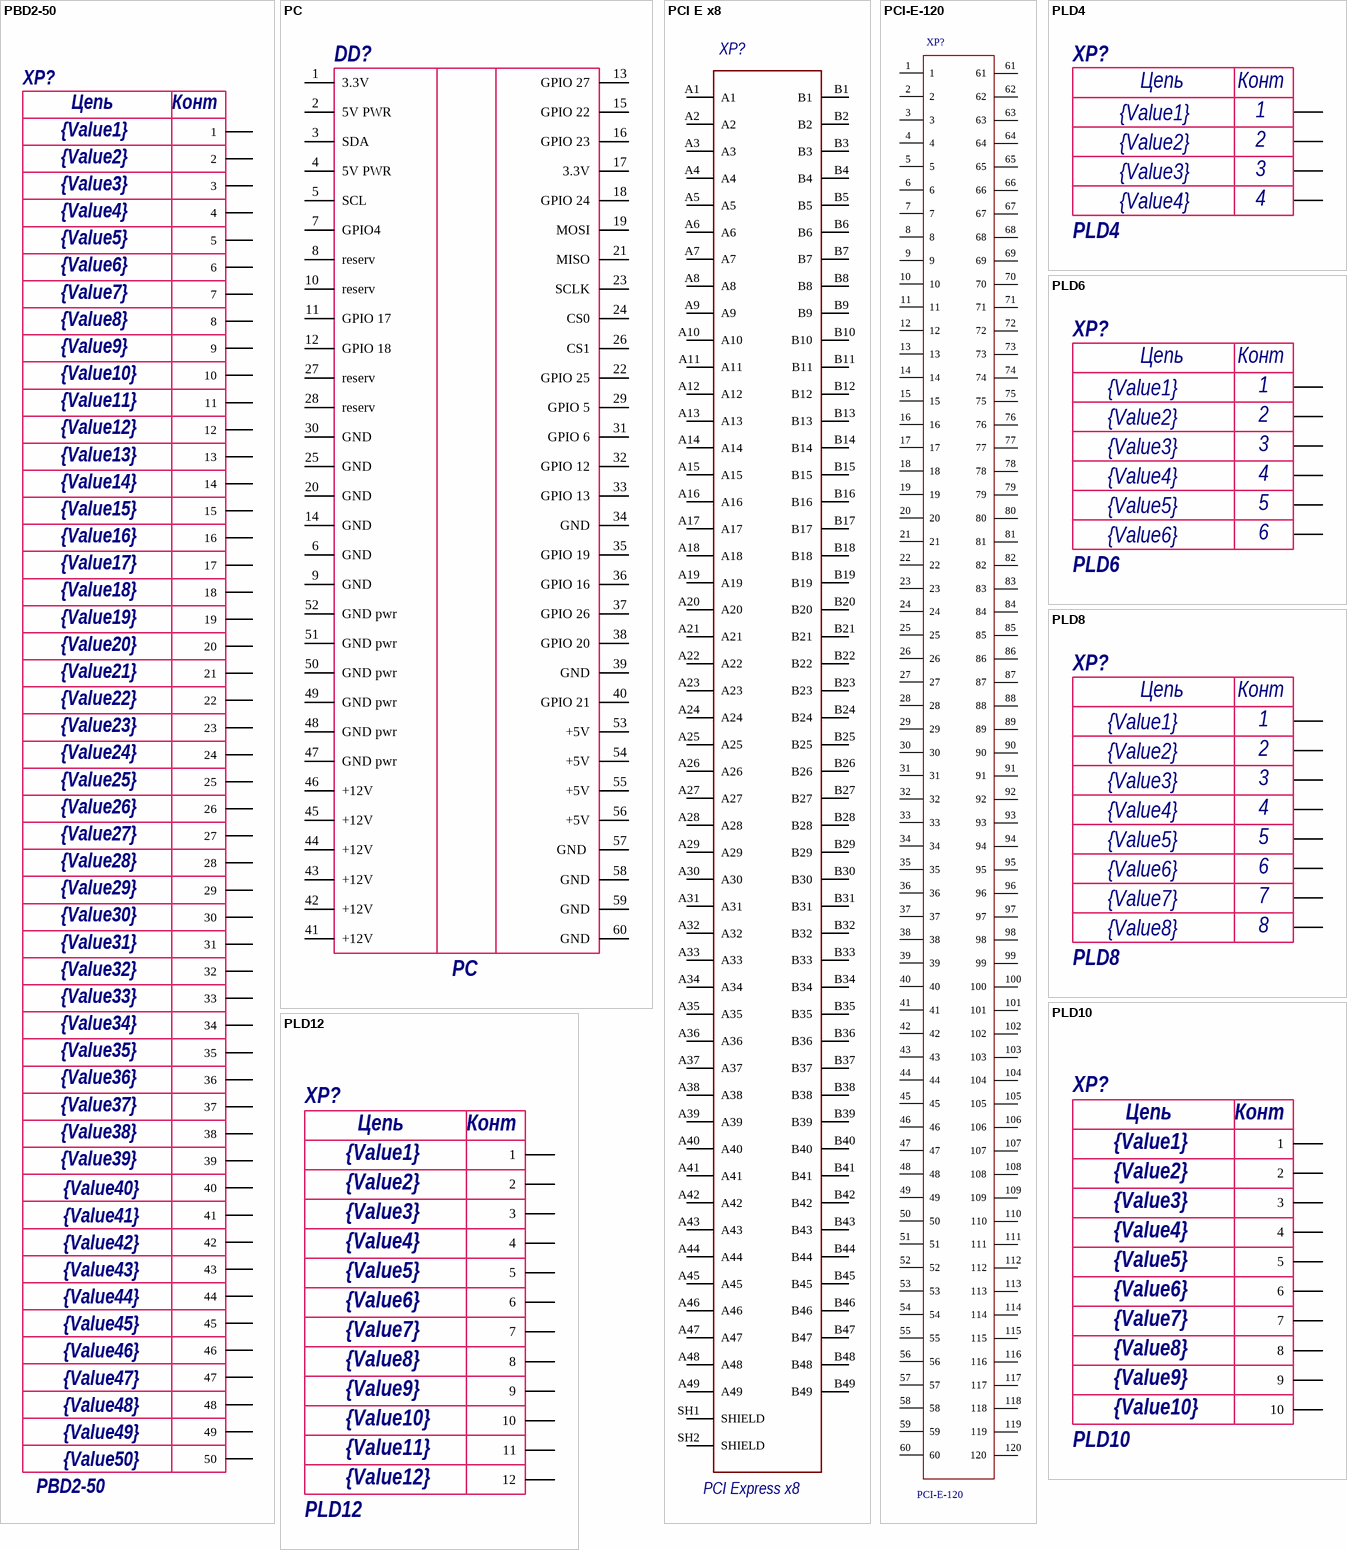
[diagram p3: symbols PBD2-50 to PLD12]

## PBD2-50
designator XP?  value PBD2-50  Value42: {Value42}  Value43: {Value43}  Value44: {Value44}  Value45: {Value45}  Value46: {Value46}  Value47: {Value47}  Value48: {Value48}  Value49: {Value49}  Value50: {Value50}  Value41: {Value41}  Value40: {Value40}  Value10: {Value10}  Value11: {Value11}  Value12: {Value12}  Value13: {Value13}  Value14: {Value14}  Value15: {Value15}  Value16: {Value16}  Value17: {Value17}  Value18: {Value18}  Value1: {Value1}  Value2: {Value2}  Value3: {Value3}  Value4: {Value4}  Value5: {Value5}  Value6: {Value6}  Value7: {Value7}  Value8: {Value8}  Value9: {Value9}  Value19: {Value19}  Value20: {Value20}  Value21: {Value21}  Value22: {Value22}  Value23: {Value23}  Value24: {Value24}  Value25: {Value25}  Value26: {Value26}  Value27: {Value27}  Value28: {Value28}  Value29: {Value29}  Value30: {Value30}  Value31: {Value31}  Value32: {Value32}  Value33: {Value33}  Value34: {Value34}  Value35: {Value35}  Value36: {Value36}  Value37: {Value37}  Value38: {Value38}  Value39: {Value39}  (hidden comment: *)
Гнездо на плату, шаг 2,54мм
footprint PBD2-50 (Socket, 2x25 Pins, Vertical, 2.54mm Pitch, Female)
pins: 1, 2, 3, 4, 5, 6, 7, 8, 9, 10, 11, 12, 13, 14, 15, 16, 17, 18, 19, 20, 21, 22, 23, 24, 25, 26, 27, 28, 29, 30, 31, 32, 33, 34, 35, 36, 37, 38, 39, 40, 41, 42, 43, 44, 45, 46, 47, 48, 49, 50
text: Цепь; Конт

## PC
designator DD?  value PC  (hidden comment: *)
footprint PC
pins: 1 3.3V, 2 5V PWR, 3 SDA, 4 5V PWR, 5 SCL, 6 GND, 7 GPIO4, 8 reserv, 9 GND, 10 reserv, 11 GPIO 17, 12 GPIO 18, 13 GPIO 27, 14 GND, 15 GPIO 22, 16 GPIO 23, 17 3.3V, 18 GPIO 24, 19 MOSI, 20 GND, 21 MISO, 22 GPIO 25, 23 SCLK, 24 CS0, 25 GND, 26 CS1, 27 reserv, 28 reserv, 29 GPIO 5, 30 GND, 31 GPIO 6, 32 GPIO 12, 33 GPIO 13, 34 GND, 35 GPIO 19, 36 GPIO 16, 37 GPIO 26, 38 GPIO 20, 39 GND, 40 GPIO 21, 41 +12V, 42 +12V, 43 +12V, 44 +12V, 45 +12V, 46 +12V, 47 GND pwr, 48 GND pwr, 49 GND pwr, 50 GND pwr, 51 GND pwr, 52 GND pwr, 53 +5V, 54 +5V, 55 +5V, 56 +5V, 57 GND , 58 GND, 59 GND, 60 GND

## PCI E x8
designator XP?, comment PCI Express x8
PCI ExpressÂ®x8 vertical Card Edge Connector, 98 Positions, 1mm (0.039inch) Pitch; MP: 10146070-112Y0LF; MF: Amphenol ICC (FCI); Package: None; SnapEDA_Link: https://www.snapeda.com/parts/10146070-112Y0LF/Amphenol+FCI/view-part/?ref=snap; Value: *; Availability: In Stock; Price: None; Purchase-URL: https://pricing.snapeda.com/search/part/10146070-112Y0LF/?ref=eda; Check_prices: https://www.snapeda.com/parts/10146070-112Y0LF/Amphenol+FCI/view-part/?ref=eda
footprint pci-e-x8
pins: A1, A2, A3, A4, A5, A6, A7, A8, A9, A10, A11, A12, A13, A14, A15, A16, A17, A18, A19, A20, A21, A22, A23, A24, A25, A26, A27, A28, A29, A30, A31, A32, A33, A34, A35, A36, A37, A38, A39, A40, A41, A42, A43, A44, A45, A46, A47, A48, A49, B1, B2, B3, B4, B5, B6, B7, B8, B9, B10, B11, B12, B13, B14, B15, B16, B17, B18, B19, B20, B21, B22, B23, B24, B25, B26, B27, B28, B29, B30, B31, B32, B33, B34, B35, B36, B37, B38, B39, B40, B41, B42, B43, B44, B45, B46, B47, B48, B49, SH1 SHIELD, SH2 SHIELD

## PCI-E-120
designator XP?
120 Position Female Connector PCIâ„¢ Gold 0.050 _1.27mm_ Natural; MF: TE Connectivity; MP: 151451542; SnapEDA_Link: https://www.snapeda.com/parts/151451542/TE%20Connectivity/view-part/2598065/?ref=snap; Value: *; TE_purchase_URL: https://www.te.com/usa-en/product-151451542.html?te_bu=Cor&te_type=disp&te_campaign=seda_glo_cor-seda-global-disp-prtnr-fy19-seda-model-bom-cta_sma-317_1&elqCampaignId=32493; Availability: Unavailable; Price: None; Package: None
footprint pci-e-120
pins: 1, 2, 3, 4, 5, 6, 7, 8, 9, 10, 11, 12, 13, 14, 15, 16, 17, 18, 19, 20, 21, 22, 23, 24, 25, 26, 27, 28, 29, 30, 31, 32, 33, 34, 35, 36, 37, 38, 39, 40, 41, 42, 43, 44, 45, 46, 47, 48, 49, 50, 51, 52, 53, 54, 55, 56, 57, 58, 59, 60, 61, 62, 63, 64, 65, 66, 67, 68, 69, 70, 71, 72, 73, 74, 75, 76, 77, 78, 79, 80, 81, 82, 83, 84, 85, 86, 87, 88, 89, 90, 91, 92, 93, 94, 95, 96, 97, 98, 99, 100, 101, 102, 103, 104, 105, 106, 107, 108, 109, 110, 111, 112, 113, 114, 115, 116, 117, 118, 119, 120

## PLD4
designator XP?  value PLD4  Value3: {Value3}  Value2: {Value2}  Value4: {Value4}  Value1: {Value1}  (hidden comment: *)
Manufacturer: Connfly; Notice: Вилка штырьевая 4 пина, шаг 2,54мм; Rate: 500В AC 1min; Datasheet: https://lib.chipdip.ru/227/DOC000227157.pdf; Shop: https://www.chipdip.ru/product/pls-4
footprint PLD4
pins: 1, 2, 3, 4
text: Цепь; Конт

## PLD6
designator XP?  value PLD6  Value1: {Value1}  Value2: {Value2}  Value3: {Value3}  Value4: {Value4}  Value5: {Value5}  Value6: {Value6}  (hidden comment: *)
Manufacturer: Connfly; Notice: Вилка штырьевая 6 пинов, шаг 2,54мм; Rate: 500В AC 1min; Datasheet: https://lib.chipdip.ru/227/DOC000227157.pdf; Shop: https://www.chipdip.ru/product/pld-6
footprint PLD6
pins: 1, 2, 3, 4, 5, 6
text: Цепь; Конт

## PLD8
designator XP?  value PLD8  Value1: {Value1}  Value2: {Value2}  Value3: {Value3}  Value4: {Value4}  Value5: {Value5}  Value6: {Value6}  Value7: {Value7}  Value8: {Value8}  (hidden comment: *)
Manufacturer: Connfly; Notice: Вилка штырьевая 8 пинов, шаг 2,54мм; Rate: 500В AC 1min; Datasheet: https://lib.chipdip.ru/227/DOC000227157.pdf; Shop: https://www.chipdip.ru/product/pld-8-ds1021-2x4
footprint PLD8
pins: 1, 2, 3, 4, 5, 6, 7, 8
text: Цепь; Конт

## PLD10
designator XP?  value PLD10  Value10: {Value10}  Value1: {Value1}  Value2: {Value2}  Value3: {Value3}  Value4: {Value4}  Value5: {Value5}  Value6: {Value6}  Value7: {Value7}  Value8: {Value8}  Value9: {Value9}  (hidden comment: *)
Manufacturer: Connfly; Notice: Вилка штырьевая 10 пинов, шаг 2,54мм; Rate: 500В AC 1min; Datasheet: https://lib.chipdip.ru/227/DOC000227157.pdf; Shop: https://www.chipdip.ru/product/pld-10
footprint PLD10
pins: 1, 2, 3, 4, 5, 6, 7, 8, 9, 10
text: Цепь; Конт

## PLD12
designator XP?  value PLD12  Value10: {Value10}  Value11: {Value11}  Value12: {Value12}  Value1: {Value1}  Value2: {Value2}  Value3: {Value3}  Value4: {Value4}  Value5: {Value5}  Value6: {Value6}  Value7: {Value7}  Value8: {Value8}  Value9: {Value9}  (hidden comment: *)
Manufacturer: Connfly; Notice: Вилка штырьевая 12 пинов, шаг 2,54мм; Rate: 500В AC 1min; Datasheet: https://lib.chipdip.ru/227/DOC000227157.pdf; Shop: https://www.chipdip.ru/product/pld-12
footprint PLD12
pins: 1, 2, 3, 4, 5, 6, 7, 8, 9, 10, 11, 12
text: Цепь; Конт

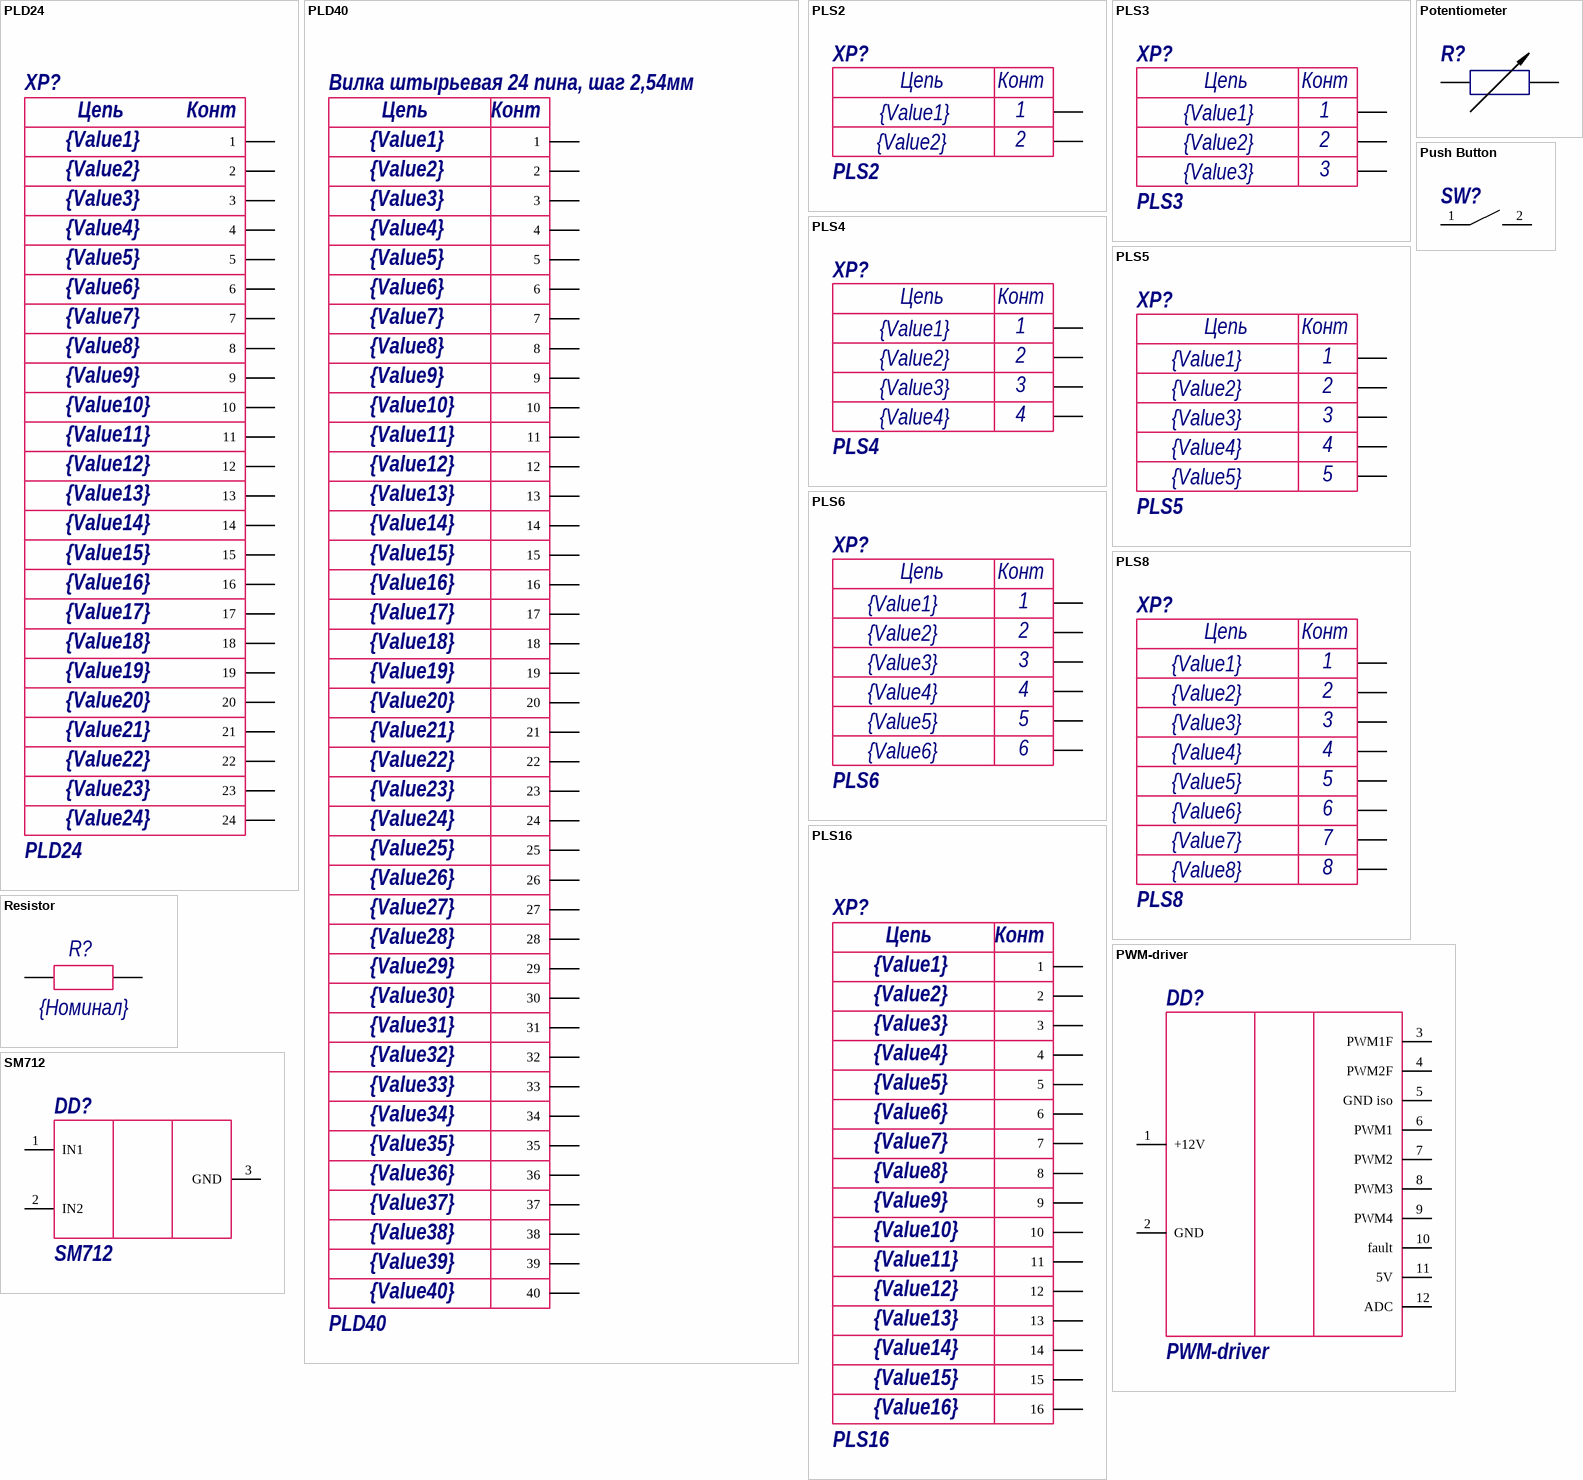
[diagram p4: symbols PLD24 to SM712]

## PLD24
designator XP?  value PLD24  Value10: {Value10}  Value11: {Value11}  Value12: {Value12}  Value13: {Value13}  Value14: {Value14}  Value15: {Value15}  Value16: {Value16}  Value17: {Value17}  Value18: {Value18}  Value1: {Value1}  Value2: {Value2}  Value3: {Value3}  Value4: {Value4}  Value5: {Value5}  Value6: {Value6}  Value7: {Value7}  Value8: {Value8}  Value9: {Value9}  Value19: {Value19}  Value20: {Value20}  Value21: {Value21}  Value22: {Value22}  Value23: {Value23}  Value24: {Value24}  (hidden comment: *)
Manufacturer: Connfly; Notice: Вилка штырьевая 24 пина, шаг 2,54мм; Rate: 500В AC 1min; Datasheet: https://lib.chipdip.ru/227/DOC000227157.pdf; Shop: https://www.chipdip.ru/product/pld-24
footprint PLD24
pins: 1, 2, 3, 4, 5, 6, 7, 8, 9, 10, 11, 12, 13, 14, 15, 16, 17, 18, 19, 20, 21, 22, 23, 24
text: Цепь; Конт

## PLD40
designator Вилка штырьевая 24 пина, шаг 2,54мм  value PLD40  Value10: {Value10}  Value11: {Value11}  Value12: {Value12}  Value13: {Value13}  Value14: {Value14}  Value15: {Value15}  Value16: {Value16}  Value17: {Value17}  Value18: {Value18}  Value1: {Value1}  Value2: {Value2}  Value3: {Value3}  Value4: {Value4}  Value5: {Value5}  Value6: {Value6}  Value7: {Value7}  Value8: {Value8}  Value9: {Value9}  Value19: {Value19}  Value20: {Value20}  Value21: {Value21}  Value22: {Value22}  Value23: {Value23}  Value24: {Value24}  Value25: {Value25}  Value26: {Value26}  Value27: {Value27}  Value28: {Value28}  Value29: {Value29}  Value30: {Value30}  Value31: {Value31}  Value32: {Value32}  Value33: {Value33}  Value34: {Value34}  Value35: {Value35}  Value36: {Value36}  Value37: {Value37}  Value38: {Value38}  Value39: {Value39}  Value40: {Value40}  (hidden comment: *)
Manufacturer: Connfly; Notice: Вилка штырьевая 40 пинов, шаг 2,54мм; Rate: 500В AC 1min; Datasheet: https://lib.chipdip.ru/463/DOC002463525.pdf; Shop: https://www.chipdip.ru/product/pld-40
footprint PLD40
pins: 1, 2, 3, 4, 5, 6, 7, 8, 9, 10, 11, 12, 13, 14, 15, 16, 17, 18, 19, 20, 21, 22, 23, 24, 25, 26, 27, 28, 29, 30, 31, 32, 33, 34, 35, 36, 37, 38, 39, 40
text: Цепь; Конт

## PLS2
designator XP?  value PLS2  Value1: {Value1}  Value2: {Value2}  (hidden comment: *)
Manufacturer: Connfly; Notice: Вилка штырьевая 2 пина, шаг 2,54мм; Rate: 500В AC 1min; Datasheet: https://lib.chipdip.ru/227/DOC000227157.pdf; Shop: https://www.chipdip.ru/product/pls-2
footprint PLS2
pins: 1, 2
text: Цепь; Конт

## PLS3
designator XP?  value PLS3  Value3: {Value3}  Value2: {Value2}  Value1: {Value1}  (hidden comment: *)
Manufacturer: Connfly; Notice: Вилка штырьевая 3 пина, шаг 2,54мм; Rate: 500В AC 1min; Datasheet: https://lib.chipdip.ru/227/DOC000227157.pdf; Shop: https://www.chipdip.ru/product/pls-3
footprint PLS3
pins: 1, 2, 3
text: Цепь; Конт

## PLS4
designator XP?  value PLS4  Value3: {Value3}  Value2: {Value2}  Value4: {Value4}  Value1: {Value1}  (hidden comment: *)
Manufacturer: Connfly; Notice: Вилка штырьевая 4 пина, шаг 2,54мм; Rate: 500В AC 1min; Datasheet: https://lib.chipdip.ru/227/DOC000227157.pdf; Shop: https://www.chipdip.ru/product/pls-4
footprint PLS4
pins: 1, 2, 3, 4
text: Цепь; Конт

## PLS5
designator XP?  value PLS5  Value1: {Value1}  Value2: {Value2}  Value3: {Value3}  Value4: {Value4}  Value5: {Value5}  (hidden comment: *)
Manufacturer: Connfly; Notice: Вилка штырьевая 5 пинов, шаг 2,54мм; Rate: 500В AC 1min; Datasheet: https://lib.chipdip.ru/227/DOC000227157.pdf; Shop: https://www.chipdip.ru/product/pls-5
footprint PLS5
pins: 1, 2, 3, 4, 5
text: Цепь; Конт

## PLS6
designator XP?  value PLS6  Value1: {Value1}  Value2: {Value2}  Value3: {Value3}  Value4: {Value4}  Value5: {Value5}  Value6: {Value6}  (hidden comment: *)
Manufacturer: Connfly; Notice: Вилка штырьевая 6 пинов, шаг 2,54мм; Rate: 500В AC 1min; Datasheet: https://lib.chipdip.ru/227/DOC000227157.pdf; Shop: https://www.chipdip.ru/product/pls-6
footprint PLS6
pins: 1, 2, 3, 4, 5, 6
text: Цепь; Конт

## PLS8
designator XP?  value PLS8  Value1: {Value1}  Value2: {Value2}  Value3: {Value3}  Value4: {Value4}  Value5: {Value5}  Value6: {Value6}  Value7: {Value7}  Value8: {Value8}  (hidden comment: *)
Manufacturer: Connfly; Notice: Вилка штырьевая 8 пинов, шаг 2,54мм; Rate: 500В AC 1min; Datasheet: https://lib.chipdip.ru/227/DOC000227157.pdf; Shop: https://www.chipdip.ru/product/pls-8
pins: 1, 2, 3, 4, 5, 6, 7, 8
text: Цепь; Конт

## PLS16
designator XP?  value PLS16  Value10: {Value10}  Value11: {Value11}  Value12: {Value12}  Value13: {Value13}  Value14: {Value14}  Value15: {Value15}  Value16: {Value16}  Value1: {Value1}  Value2: {Value2}  Value3: {Value3}  Value4: {Value4}  Value5: {Value5}  Value6: {Value6}  Value7: {Value7}  Value8: {Value8}  Value9: {Value9}  (hidden comment: *)
Manufacturer: Connfly; Notice: Вилка штырьевая 16 пинов, шаг 2,54мм; Rate: 500В AC 1min; Datasheet: https://lib.chipdip.ru/227/DOC000227157.pdf; Shop: https://www.chipdip.ru/product/pls-16
footprint PLS16
pins: 1, 2, 3, 4, 5, 6, 7, 8, 9, 10, 11, 12, 13, 14, 15, 16
text: Цепь; Конт

## Potentiometer
designator R?  (value not drawn)
footprint POT4MM
pins: 1, 2, 3

## Push Button
designator SW?, comment FSMSMTR  (value not drawn)
FSMSM Push Button Switch, 50 mA, -35 to 85 degC, 2-Pin SMD, RoHS, Tape and Reel; Manufacturer: TE Connectivity; Voltage Rating (DC): 24V; Electrical Life: 20000Cycles; Operating Force: 180gf; Switch Travel: 0.25mm; Contact Current Rating: 50mA; Case\/Package: SMD/SMT; Actuator Length: 1.07mm; Throw Configuration: SPST; Actuator Material: Polyamide; Contact Resistance: 100mOhm; Illumination Type: Illuminated; Max Voltage Rating (DC): 12V; Manufacturer URL: http://www.te.com/; Lead Free: LeadFree; Packaging: TapeandReel; Min Operating Temperature: -35degC; Mechanical Life: 20000Cycles; Mount: SurfaceMount; REACH SVHC: Unknown; Package Quantity: 1800; Package Reference: FSMSMTR; RoHSCompliant: true; Max Operating Temperature: 85degC; Orientation: Straight; ELV: Compliant; Datasheet URL: http://www.te.com/commerce/DocumentDelivery/DDEController?Action=showdoc&DocId=Customer+Drawing%7F1437566-3%7FC2%7Fpdf%7FEnglish%7FENG_CD_1437566-3_C2_1437566_3_1_c.dwg.pdf%7F1437566-4; Package Description: 2-Pin Surface Mount Device, Body 6 x 3.5 mm, Pitch 9.19 mm; Current Rating: 50mA; Contact Plating: Silver; Termination: GullWing; Datasheet Version: Rev. C2, 08/2014; Contact Material: Brass; Mounting Technology: SurfaceMount
footprint TECO-FSMSMTR_V (SMD, 2-Leads, Body 6x3.5mm, Pitch 9.19mm)
pins: 1, 2

## PWM-driver
designator DD?  value PWM-driver  (hidden comment: *)
pins: 1 +12V, 2 GND, 3 PWM1F, 4 PWM2F, 5 GND iso, 6 PWM1, 7 PWM2, 8 PWM3, 9 PWM4, 10 fault, 11 5V, 12 ADC

## Resistor
designator R?  value {Номинал}
footprint 0805R
footprint 0603R (Chip Resistor, 2-Leads, Body 1.60x0.85mm, IPC Medium Density)
pins: 1, 2

## SM712
designator DD?  value SM712  (hidden comment: *)
Manufactore: SEMTECH; Notice: Защита RS-485; Rate: 12В; Datasheet: http://www.semtech.com/images/datasheet/sm712.pdf; Shop: https://www.chipdip.ru/product/sm712.tct; Case: SOT23
footprint SOT23
pins: 1 IN1, 2 IN2, 3 GND

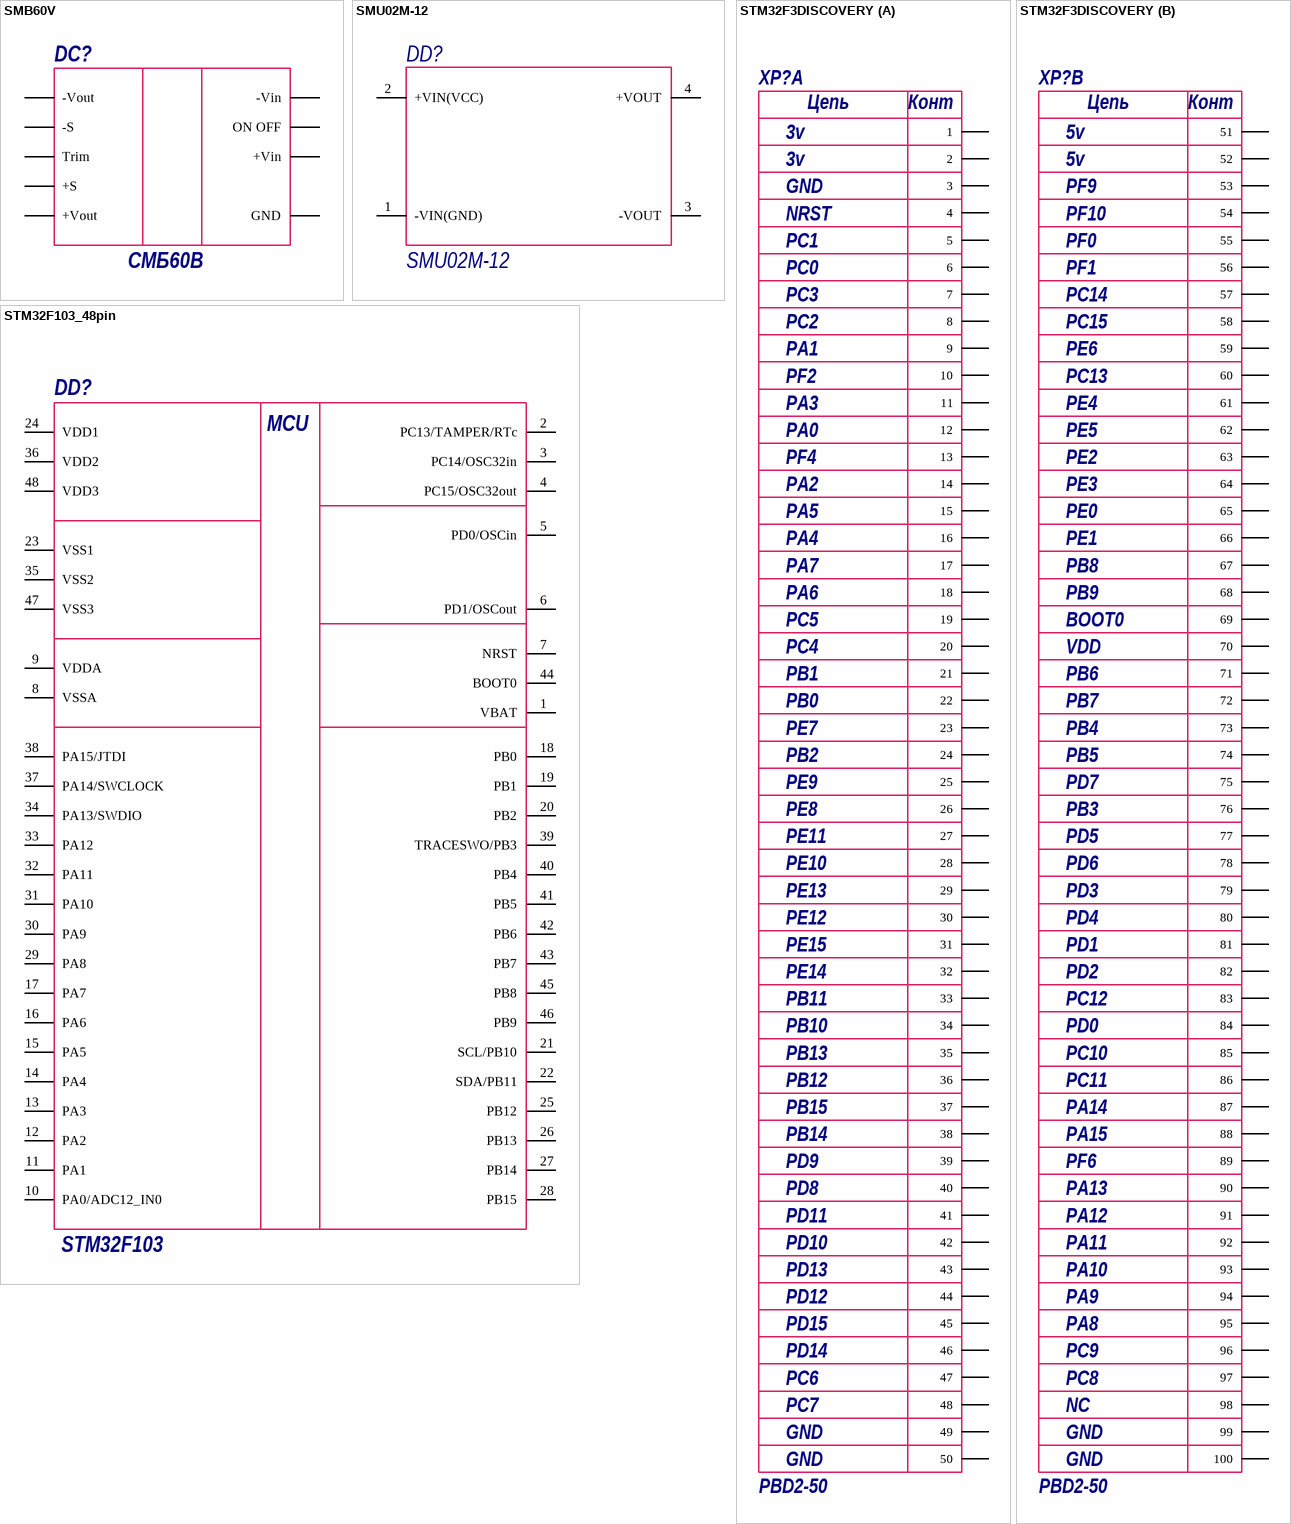
[diagram p5: symbols SMB60V to STM32F103_48pin]

## SMB60V
designator DC?  value СМБ60В  (hidden comment: SMB60V)
СМБ60В; Manufacturer: Ирбис; Notice: DC-DC преобразователь 60 Вт, выходное напряжение - 12В; Rate: 18...72В; Datasheet: http://newet.ru/upload/iblock/da3/da32c35c0007bb917bca288ed4fe9d4e.pdf; Shop: http://newet.ru/catalog/s_vykhodnym_napryazheniem_12_v/konvertor_smb60v/
footprint SMB60V
pins: +S, +Vin, +Vout, -S, -Vin, -Vout, GND, ON OFF, Trim

## SMU02M-12
designator DD?
MP: TME_1212S; Value: *; Availability: Unavailable; Price: None; Package: None
footprint SIP750W50P254L1160H1014Q4
pins: 1 -VIN(GND), 2 +VIN(VCC), 3 -VOUT, 4 +VOUT

## STM32F3DISCOVERY
designator XP?  value PBD2-50  (hidden comment: *)
Гнездо на плату, шаг 2,54мм
footprint STM32F3DISCOVERY (Socket, 2x25 Pins, Vertical, 2.54mm Pitch, Female)
part A pins: 1, 2, 3, 4, 5, 6, 7, 8, 9, 10, 11, 12, 13, 14, 15, 16, 17, 18, 19, 20, 21, 22, 23, 24, 25, 26, 27, 28, 29, 30, 31, 32, 33, 34, 35, 36, 37, 38, 39, 40, 41, 42, 43, 44, 45, 46, 47, 48, 49, 50
part B pins: 51, 52, 53, 54, 55, 56, 57, 58, 59, 60, 61, 62, 63, 64, 65, 66, 67, 68, 69, 70, 71, 72, 73, 74, 75, 76, 77, 78, 79, 80, 81, 82, 83, 84, 85, 86, 87, 88, 89, 90, 91, 92, 93, 94, 95, 96, 97, 98, 99, 100
part A text: Цепь; Конт; 3v; GND; NRST; PC1; PC0; PC3; PC2; PA1; PF2; PA3; PA0; PF4; PA2; PA5; PA4; PA7; PA6; PC5; PC4; PB1; PB0; PE7; PB2; PE9; PE8; PE11; PE10; PE13; PE12; PE15; PE14; PB11; PB10; PB13; PB12; PB15; PB14; PD9; PD8; PD11; PD10; PD13; PD12; PD15; PD14; PC6; PC7
part B text: Цепь; Конт; 5v; PF9; PF10; PF0; PF1; PC14; PC15; PE6; PC13; PE4; PE5; PE2; PE3; PE0; PE1; PB8; PB9; BOOT0; VDD; PB6; PB7; PB4; PB5; PD7; PB3; PD5; PD6; PD3; PD4; PD1; PD2; PC12; PD0; PC10; PC11; PA14; PA15; PF6; PA13; PA12; PA11; PA10; PA9; PA8; PC9; PC8; NC; GND

## STM32F103_48pin
designator DD?, comment Value1: MCU  (hidden comment: STM32F103)
Manufacturer: ST Microelectronics; Rate: -0,3...4,0В; Shop: магазин с самой дешевой ценой; Notice: 48 пиновая версия STM32F103; Datasheet: http://www.st.com/content/ccc/resource/technical/document/datasheet/33/d4/6f/1d/df/0b/4c/6d/CD00161566.pdf/files/CD00161566.pdf/jcr:content/translations/en.CD00161566.pdf; Case: корпус; Value: STM32F103
footprint LQFP48 (TSQFP, 48-Leads, Body 7,00x7,00mm, Pitch 0,50mm, IPC Medium Density)
pins: 1 VBAT, 2 PC13/TAMPER/RTc, 3 PC14/OSC32in, 4 PC15/OSC32out, 5 PD0/OSCin, 6 PD1/OSCout, 7 NRST, 8 VSSA, 9 VDDA, 10 PA0/ADC12_IN0, 11 PA1, 12 PA2, 13 PA3, 14 PA4, 15 PA5, 16 PA6, 17 PA7, 18 PB0, 19 PB1, 20 PB2, 21 SCL/PB10, 22 SDA/PB11, 23 VSS1, 24 VDD1, 25 PB12, 26 PB13, 27 PB14, 28 PB15, 29 PA8, 30 PA9, 31 PA10, 32 PA11, 33 PA12, 34 PA13/SWDIO, 35 VSS2, 36 VDD2, 37 PA14/SWCLOCK, 38 PA15/JTDI, 39 TRACESWO/PB3, 40 PB4, 41 PB5, 42 PB6, 43 PB7, 44 BOOT0, 45 PB8, 46 PB9, 47 VSS3, 48 VDD3

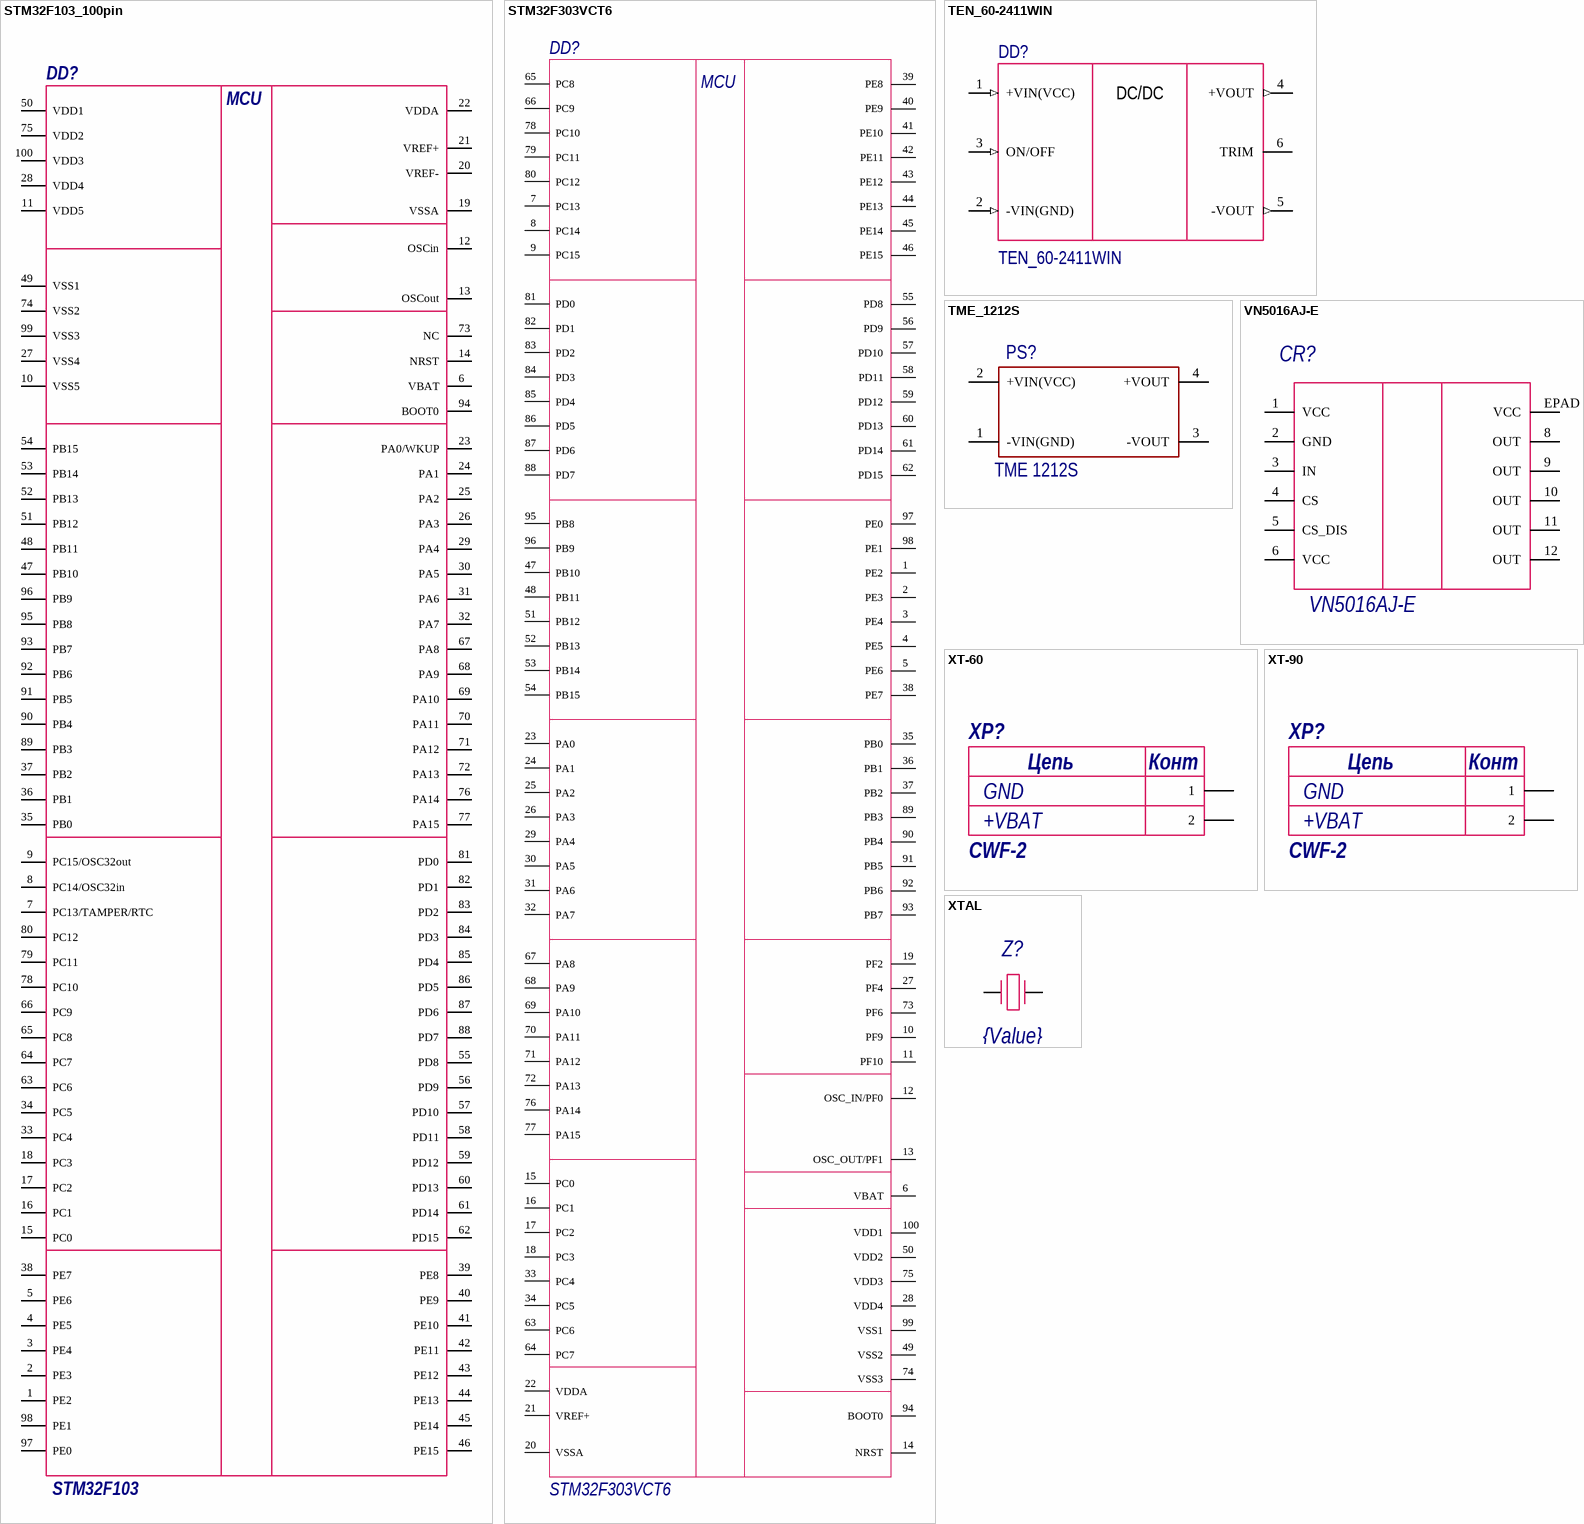
[diagram p6: symbols STM32F103_100pin to XTAL]

## STM32F103_100pin
designator DD?, comment Value1: MCU  (hidden comment: STM32F103)
Manufacturer: ST Microelectronics; Rate: -0,3...4,0В; Shop: магазин с самой дешевой ценой; Notice: 100 пиновая версия STM32F103; Datasheet: http://www.st.com/content/ccc/resource/technical/document/datasheet/33/d4/6f/1d/df/0b/4c/6d/CD00161566.pdf/files/CD00161566.pdf/jcr:content/translations/en.CD00161566.pdf; Case: корпус; Value: STM32F103
footprint LQFP100 (TSQFP, 100-Leads, Body 14,00x14,00mm, Pitch 0,50mm, IPC Medium Density)
pins: 1 PE2, 2 PE3, 3 PE4, 4 PE5, 5 PE6, 6 VBAT, 7 PC13/TAMPER/RTC, 8 PC14/OSC32in, 9 PC15/OSC32out, 10 VSS5, 11 VDD5, 12 OSCin, 13 OSCout, 14 NRST, 15 PC0, 16 PC1, 17 PC2, 18 PC3, 19 VSSA, 20 VREF-, 21 VREF+, 22 VDDA, 23 PA0/WKUP, 24 PA1, 25 PA2, 26 PA3, 27 VSS4, 28 VDD4, 29 PA4, 30 PA5, 31 PA6, 32 PA7, 33 PC4, 34 PC5, 35 PB0, 36 PB1, 37 PB2, 38 PE7, 39 PE8, 40 PE9, 41 PE10, 42 PE11, 43 PE12, 44 PE13, 45 PE14, 46 PE15, 47 PB10, 48 PB11, 49 VSS1, 50 VDD1, 51 PB12, 52 PB13, 53 PB14, 54 PB15, 55 PD8, 56 PD9, 57 PD10, 58 PD11, 59 PD12, 60 PD13, 61 PD14, 62 PD15, 63 PC6, 64 PC7, 65 PC8, 66 PC9, 67 PA8, 68 PA9, 69 PA10, 70 PA11, 71 PA12, 72 PA13, 73 NC, 74 VSS2, 75 VDD2, 76 PA14, 77 PA15, 78 PC10, 79 PC11, 80 PC12, 81 PD0, 82 PD1, 83 PD2, 84 PD3, 85 PD4, 86 PD5, 87 PD6, 88 PD7, 89 PB3, 90 PB4, 91 PB5, 92 PB6, 93 PB7, 94 BOOT0, 95 PB8, 96 PB9, 97 PE0, 98 PE1, 99 VSS3, 100 VDD3

## STM32F303VCT6
designator DD?
Manufactore: STMicroelectronics; Rate: 2.0 V to 3.6 V; Datasheet: http://www.st.com/content/ccc/resource/technical/document/datasheet/f2/1f/e1/41/ef/59/4d/50/DM00058181.pdf/files/DM00058181.pdf/jcr:content/translations/en.DM00058181.pdf; Footprint: LQFP100
footprint LQFP100 (TSQFP, 100-Leads, Body 14,00x14,00mm, Pitch 0,50mm, IPC Medium Density)
pins: 1 PE2, 2 PE3, 3 PE4, 4 PE5, 5 PE6, 6 VBAT, 7 PC13, 8 PC14, 9 PC15, 10 PF9, 11 PF10, 12 OSC_IN/PF0, 13 OSC_OUT/PF1, 14 NRST, 15 PC0, 16 PC1, 17 PC2, 18 PC3, 19 PF2, 20 VSSA, 21 VREF+, 22 VDDA, 23 PA0, 24 PA1, 25 PA2, 26 PA3, 27 PF4, 28 VDD4, 29 PA4, 30 PA5, 31 PA6, 32 PA7, 33 PC4, 34 PC5, 35 PB0, 36 PB1, 37 PB2, 38 PE7, 39 PE8, 40 PE9, 41 PE10, 42 PE11, 43 PE12, 44 PE13, 45 PE14, 46 PE15, 47 PB10, 48 PB11, 49 VSS2, 50 VDD2, 51 PB12, 52 PB13, 53 PB14, 54 PB15, 55 PD8, 56 PD9, 57 PD10, 58 PD11, 59 PD12, 60 PD13, 61 PD14, 62 PD15, 63 PC6, 64 PC7, 65 PC8, 66 PC9, 67 PA8, 68 PA9, 69 PA10, 70 PA11, 71 PA12, 72 PA13, 73 PF6, 74 VSS3, 75 VDD3, 76 PA14, 77 PA15, 78 PC10, 79 PC11, 80 PC12, 81 PD0, 82 PD1, 83 PD2, 84 PD3, 85 PD4, 86 PD5, 87 PD6, 88 PD7, 89 PB3, 90 PB4, 91 PB5, 92 PB6, 93 PB7, 94 BOOT0, 95 PB8, 96 PB9, 97 PE0, 98 PE1, 99 VSS1, 100 VDD1
text: MCU

## TEN_60-2411WIN
designator DD?  value DC/DC
Price: None; MP: TEN_60-2411WIN; Package: None; Availability: Unavailable
footprint CONV_TEN_60-2411WIN
pins: 1 +VIN(VCC) (in), 2 -VIN(GND) (in), 3 ON/OFF (in), 4 +VOUT (out), 5 -VOUT (out), 6 TRIM

## TME_1212S
designator PS?, comment TME 1212S
MP: TME_1212S; Value: *; Availability: Unavailable; Price: None; Package: None
footprint CONV_TME_1212S - duplicate
pins: 1 -VIN(GND), 2 +VIN(VCC), 3 -VOUT, 4 +VOUT

## VN5016AJ-E
designator CR?
No Description Available; Mfr_Name: STMicroelectronics; Type: DEV; Copyright: Copyright (C) 2022 Ultra Librarian. All rights reserved.; Manufacturer_Part_Number: VN5016AJ-E; RefDes: RefDes
footprint PowerSSO-12_STM
pins: 1 VCC, 2 GND, 3 IN, 4 CS, 5 CS_DIS, 6 VCC, 8 OUT, 9 OUT, 10 OUT, 11 OUT, 12 OUT, EPAD VCC

## XT-60
designator XP?  value CWF-2  Value1: GND  Value2: +VBAT  (hidden comment: *)
Manufacturer: Connfly; Notice: Вилка-мама 2 пина, шаг 2.5мм; Rate: 500В AC 1min; Case: корпус; Datasheet: https://lib.chipdip.ru/413/DOC001413777.pdf; Shop: https://www.chipdip.ru/product/cwf-2
footprint AMASS_XT60-M
pins: 1, 2
text: Цепь; Конт

## XT-90
designator XP?  value CWF-2  Value1: GND  Value2: +VBAT  (hidden comment: *)
Manufacturer: Connfly; Notice: Вилка-мама 2 пина, шаг 2.5мм; Rate: 500В AC 1min; Case: корпус; Datasheet: https://lib.chipdip.ru/413/DOC001413777.pdf; Shop: https://www.chipdip.ru/product/cwf-2
footprint AMASS_XT90-M
pins: 1, 2
text: Цепь; Конт

## XTAL
designator Z?  value {Value}  (hidden comment: *)
XTAL
footprint HC49US
footprint KX-7 resonator (DFN, 4-Leads, Body 2,50x3,20mm, Pitch 2,10mm, IPC Medium Density)
footprint KXO-V97
footprint NX5032GA
pins: 1, 2